# Altium integrated library Philips Microcontroller 16-Bit.IntLib: 30 symbols (part 1 of 2)
Pins are listed as number, name and electrical type; pins without a type are passive.

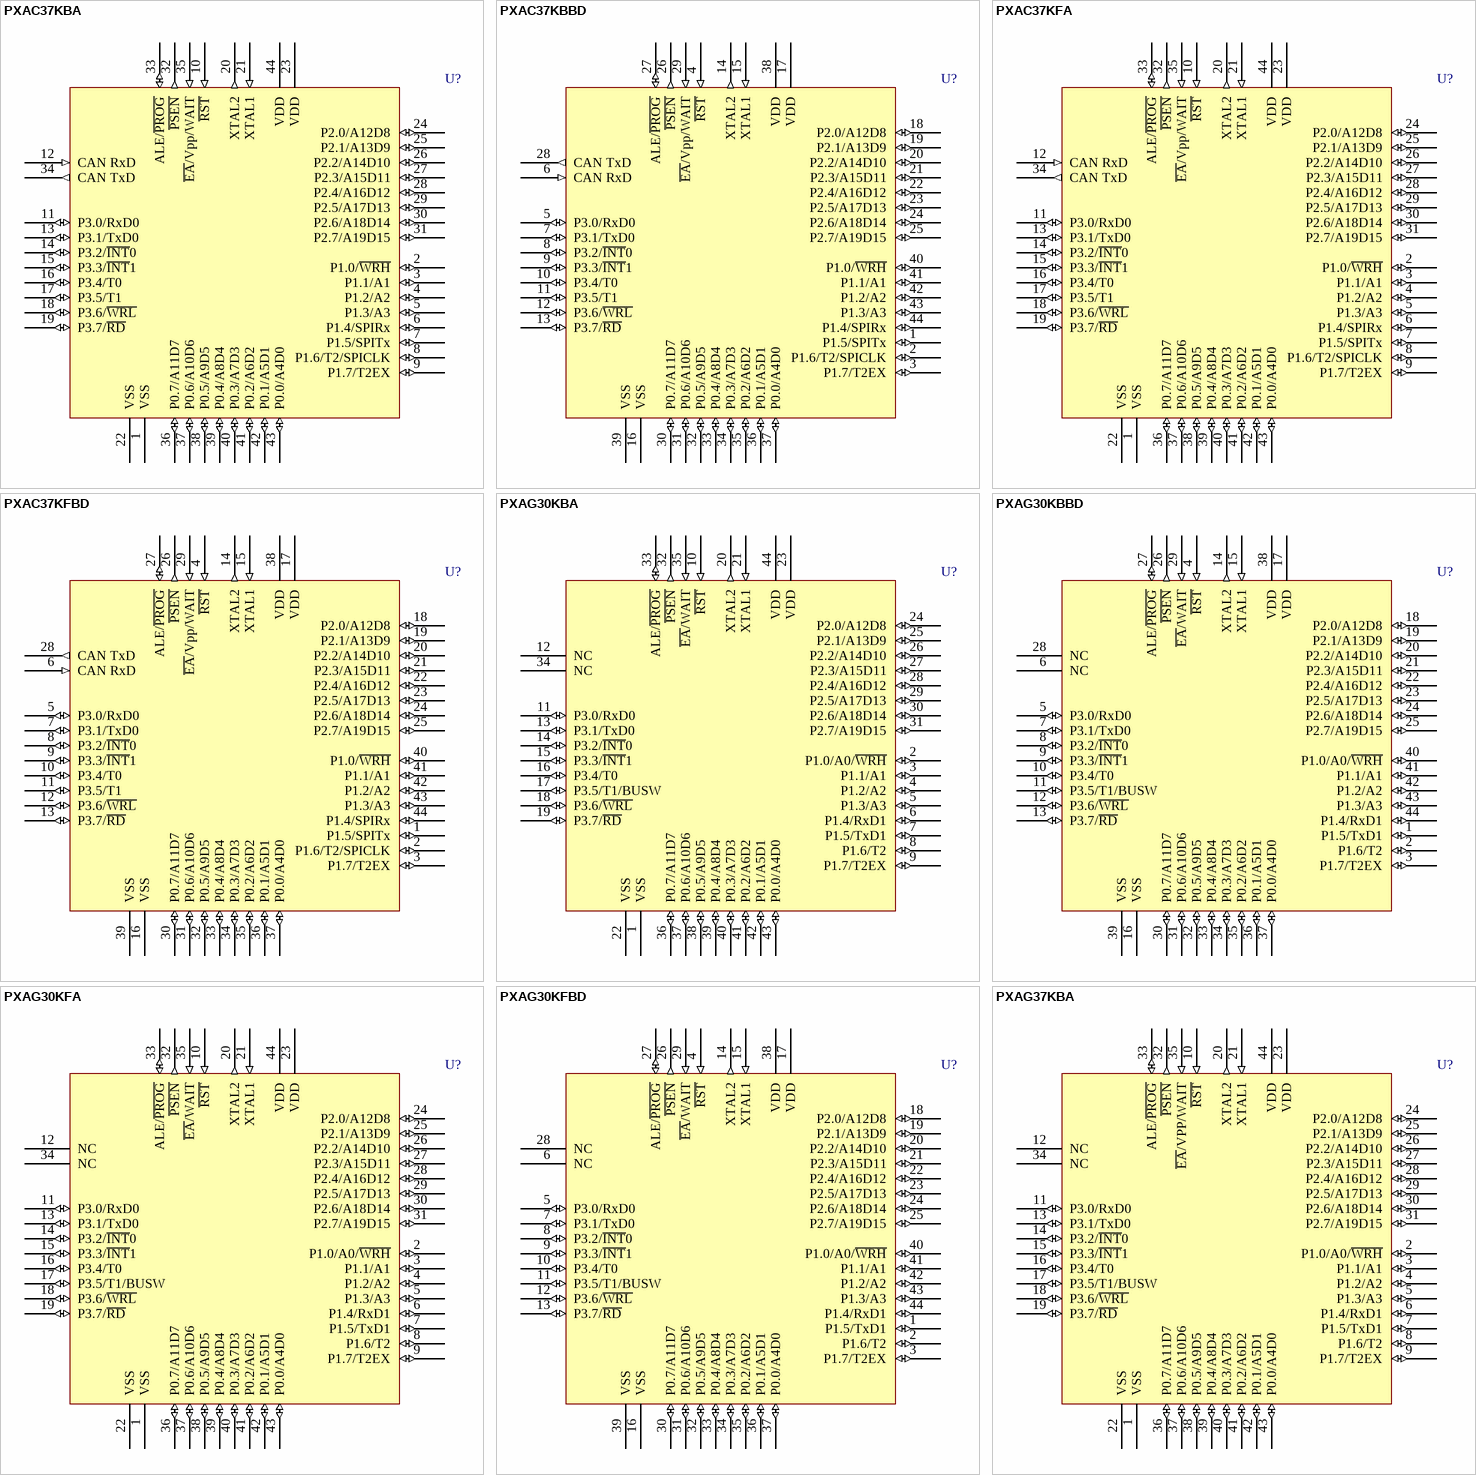
[diagram p0: symbols PXAC37KBA to PXAG37KBA]

## PXAC37KBA
designator U?
XA 16-Bit Microcontroller Family, 32 K/1024 OTP CAN Transport Layer Controller, 1 UART, 1 SPI Port, CAN 2.0B, 32 CAN ID Filters; Published: 21-May-2003; LatestRevisionDate: 13-Apr-2006; LatestRevisionNote: IPC-7351 Footprint Added.; DatasheetVersion: 25-Jan-2000; PackageVersion: Jan-2000; PackageReference: SOT187-2; Publisher: Altium Limited; PackageDescription: 44-Pin Leaded Chip Carrier 1.27 mm Pitch; Code_JEDEC: MO-047AC; Code_IPC: PLCC-44; ComponentLink1Description: Manufacturer Link; ComponentLink1URL: http://www-us2.semiconductors.philips.com/; ComponentLink2Description: Datasheet; ComponentLink2URL: http://www.semiconductors.philips.com/acrobat/datasheets/XA-C3_5.pdf
footprint SOT187-2_N (Leaded Chip Carrier, 44-Leads, Body 16.6x16.6mm, Pitch 1.27mm, IPC Medium Density)
footprint SOT187-2_L (Leaded Chip Carrier, 44-Leads, Body 16.6x16.6mm, Pitch 1.27mm, IPC High Density)
footprint SOT187-2_M (Leaded Chip Carrier, 44-Leads, Body 16.6x16.6mm, Pitch 1.27mm, IPC Low Density)
pins: 1 VSS (power), 2 P1.0/~{WRH} (io), 3 P1.1/A1 (io), 4 P1.2/A2 (io), 5 P1.3/A3 (io), 6 P1.4/SPIRx (io), 7 P1.5/SPITx (io), 8 P1.6/T2/SPICLK (io), 9 P1.7/T2EX (io), 10 ~{RST} (in), 11 P3.0/RxD0 (io), 12 CAN RxD (in), 13 P3.1/TxD0 (io), 14 P3.2/~{INT}0 (io), 15 P3.3/~{INT}1 (io), 16 P3.4/T0 (io), 17 P3.5/T1 (io), 18 P3.6/~{WRL} (io), 19 P3.7/~{RD} (io), 20 XTAL2 (out), 21 XTAL1 (in), 22 VSS (power), 23 VDD (power), 24 P2.0/A12D8 (io), 25 P2.1/A13D9 (io), 26 P2.2/A14D10 (io), 27 P2.3/A15D11 (io), 28 P2.4/A16D12 (io), 29 P2.5/A17D13 (io), 30 P2.6/A18D14 (io), 31 P2.7/A19D15 (io), 32 ~{PSEN} (out), 33 ALE/~{PROG} (io), 34 CAN TxD (out), 35 ~{EA}/Vpp/WAIT (in), 36 P0.7/A11D7 (io), 37 P0.6/A10D6 (io), 38 P0.5/A9D5 (io), 39 P0.4/A8D4 (io), 40 P0.3/A7D3 (io), 41 P0.2/A6D2 (io), 42 P0.1/A5D1 (io), 43 P0.0/A4D0 (io), 44 VDD (power)

## PXAC37KBBD
designator U?
XA 16-Bit Microcontroller Family, 32 K/1024 OTP CAN Transport Layer Controller, 1 UART, 1 SPI Port, CAN 2.0B, 32 CAN ID Filters; Published: 21-May-2003; LatestRevisionDate: 13-Apr-2006; LatestRevisionNote: IPC-7351 Footprint Added.; DatasheetVersion: 25-Jan-2000; PackageVersion: Jan-2002; PackageReference: SOT389-1; Publisher: Altium Limited; PackageDescription: 44-Pin Thin Quad Flat Pack 0.8 mm Pitch; Code_JEDEC: MO-026; ComponentLink1Description: Manufacturer Link; ComponentLink1URL: http://www-us2.semiconductors.philips.com/; ComponentLink2Description: Datasheet; ComponentLink2URL: http://www.semiconductors.philips.com/acrobat/datasheets/XA-C3_5.pdf
footprint SOT389-1_N (Thin QFP, 44-Leads, Body 10x10mm, Pitch 0.8mm, IPC Medium Density)
footprint SOT389-1_L (Thin QFP, 44-Leads, Body 10x10mm, Pitch 0.8mm, IPC High Density)
footprint SOT389-1_M (Thin QFP, 44-Leads, Body 10x10mm, Pitch 0.8mm, IPC Low Density)
pins: 1 P1.5/SPITx (io), 2 P1.6/T2/SPICLK (io), 3 P1.7/T2EX (io), 4 ~{RST} (in), 5 P3.0/RxD0 (io), 6 CAN RxD (in), 7 P3.1/TxD0 (io), 8 P3.2/~{INT}0 (io), 9 P3.3/~{INT}1 (io), 10 P3.4/T0 (io), 11 P3.5/T1 (io), 12 P3.6/~{WRL} (io), 13 P3.7/~{RD} (io), 14 XTAL2 (out), 15 XTAL1 (in), 16 VSS (power), 17 VDD (power), 18 P2.0/A12D8 (io), 19 P2.1/A13D9 (io), 20 P2.2/A14D10 (io), 21 P2.3/A15D11 (io), 22 P2.4/A16D12 (io), 23 P2.5/A17D13 (io), 24 P2.6/A18D14 (io), 25 P2.7/A19D15 (io), 26 ~{PSEN} (out), 27 ALE/~{PROG} (io), 28 CAN TxD (out), 29 ~{EA}/Vpp/WAIT (in), 30 P0.7/A11D7 (io), 31 P0.6/A10D6 (io), 32 P0.5/A9D5 (io), 33 P0.4/A8D4 (io), 34 P0.3/A7D3 (io), 35 P0.2/A6D2 (io), 36 P0.1/A5D1 (io), 37 P0.0/A4D0 (io), 38 VDD (power), 39 VSS (power), 40 P1.0/~{WRH} (io), 41 P1.1/A1 (io), 42 P1.2/A2 (io), 43 P1.3/A3 (io), 44 P1.4/SPIRx (io)

## PXAC37KFA
designator U?
XA 16-Bit Microcontroller Family, 32 K/1024 OTP CAN Transport Layer Controller, 1 UART, 1 SPI Port, CAN 2.0B, 32 CAN ID Filters; Published: 21-May-2003; LatestRevisionDate: 13-Apr-2006; LatestRevisionNote: IPC-7351 Footprint Added.; DatasheetVersion: 25-Jan-2000; PackageVersion: Jan-2000; PackageReference: SOT187-2; Publisher: Altium Limited; PackageDescription: 44-Pin Leaded Chip Carrier 1.27 mm Pitch; Code_JEDEC: MO-047AC; Code_IPC: PLCC-44; ComponentLink1Description: Manufacturer Link; ComponentLink1URL: http://www-us2.semiconductors.philips.com/; ComponentLink2Description: Datasheet; ComponentLink2URL: http://www.semiconductors.philips.com/acrobat/datasheets/XA-C3_5.pdf
footprint SOT187-2_N (Leaded Chip Carrier, 44-Leads, Body 16.6x16.6mm, Pitch 1.27mm, IPC Medium Density)
footprint SOT187-2_L (Leaded Chip Carrier, 44-Leads, Body 16.6x16.6mm, Pitch 1.27mm, IPC High Density)
footprint SOT187-2_M (Leaded Chip Carrier, 44-Leads, Body 16.6x16.6mm, Pitch 1.27mm, IPC Low Density)
pins: 1 VSS (power), 2 P1.0/~{WRH} (io), 3 P1.1/A1 (io), 4 P1.2/A2 (io), 5 P1.3/A3 (io), 6 P1.4/SPIRx (io), 7 P1.5/SPITx (io), 8 P1.6/T2/SPICLK (io), 9 P1.7/T2EX (io), 10 ~{RST} (in), 11 P3.0/RxD0 (io), 12 CAN RxD (in), 13 P3.1/TxD0 (io), 14 P3.2/~{INT}0 (io), 15 P3.3/~{INT}1 (io), 16 P3.4/T0 (io), 17 P3.5/T1 (io), 18 P3.6/~{WRL} (io), 19 P3.7/~{RD} (io), 20 XTAL2 (out), 21 XTAL1 (in), 22 VSS (power), 23 VDD (power), 24 P2.0/A12D8 (io), 25 P2.1/A13D9 (io), 26 P2.2/A14D10 (io), 27 P2.3/A15D11 (io), 28 P2.4/A16D12 (io), 29 P2.5/A17D13 (io), 30 P2.6/A18D14 (io), 31 P2.7/A19D15 (io), 32 ~{PSEN} (out), 33 ALE/~{PROG} (io), 34 CAN TxD (out), 35 ~{EA}/Vpp/WAIT (in), 36 P0.7/A11D7 (io), 37 P0.6/A10D6 (io), 38 P0.5/A9D5 (io), 39 P0.4/A8D4 (io), 40 P0.3/A7D3 (io), 41 P0.2/A6D2 (io), 42 P0.1/A5D1 (io), 43 P0.0/A4D0 (io), 44 VDD (power)

## PXAC37KFBD
designator U?
XA 16-Bit Microcontroller Family, 32 K/1024 OTP CAN Transport Layer Controller, 1 UART, 1 SPI Port, CAN 2.0B, 32 CAN ID Filters; Published: 21-May-2003; LatestRevisionDate: 13-Apr-2006; LatestRevisionNote: IPC-7351 Footprint Added.; DatasheetVersion: 25-Jan-2000; PackageVersion: Jan-2002; PackageReference: SOT389-1; Publisher: Altium Limited; PackageDescription: 44-Pin Thin Quad Flat Pack 0.8 mm Pitch; Code_JEDEC: MO-026; ComponentLink1Description: Manufacturer Link; ComponentLink1URL: http://www-us2.semiconductors.philips.com/; ComponentLink2Description: Datasheet; ComponentLink2URL: http://www.semiconductors.philips.com/acrobat/datasheets/XA-C3_5.pdf
footprint SOT389-1_N (Thin QFP, 44-Leads, Body 10x10mm, Pitch 0.8mm, IPC Medium Density)
footprint SOT389-1_L (Thin QFP, 44-Leads, Body 10x10mm, Pitch 0.8mm, IPC High Density)
footprint SOT389-1_M (Thin QFP, 44-Leads, Body 10x10mm, Pitch 0.8mm, IPC Low Density)
pins: 1 P1.5/SPITx (io), 2 P1.6/T2/SPICLK (io), 3 P1.7/T2EX (io), 4 ~{RST} (in), 5 P3.0/RxD0 (io), 6 CAN RxD (in), 7 P3.1/TxD0 (io), 8 P3.2/~{INT}0 (io), 9 P3.3/~{INT}1 (io), 10 P3.4/T0 (io), 11 P3.5/T1 (io), 12 P3.6/~{WRL} (io), 13 P3.7/~{RD} (io), 14 XTAL2 (out), 15 XTAL1 (in), 16 VSS (power), 17 VDD (power), 18 P2.0/A12D8 (io), 19 P2.1/A13D9 (io), 20 P2.2/A14D10 (io), 21 P2.3/A15D11 (io), 22 P2.4/A16D12 (io), 23 P2.5/A17D13 (io), 24 P2.6/A18D14 (io), 25 P2.7/A19D15 (io), 26 ~{PSEN} (out), 27 ALE/~{PROG} (io), 28 CAN TxD (out), 29 ~{EA}/Vpp/WAIT (in), 30 P0.7/A11D7 (io), 31 P0.6/A10D6 (io), 32 P0.5/A9D5 (io), 33 P0.4/A8D4 (io), 34 P0.3/A7D3 (io), 35 P0.2/A6D2 (io), 36 P0.1/A5D1 (io), 37 P0.0/A4D0 (io), 38 VDD (power), 39 VSS (power), 40 P1.0/~{WRH} (io), 41 P1.1/A1 (io), 42 P1.2/A2 (io), 43 P1.3/A3 (io), 44 P1.4/SPIRx (io)

## PXAG30KBA
designator U?
XA 16-Bit Microcontroller Family, 512 B RAM, Watchdog, 2 UARTs; Published: 21-May-2003; LatestRevisionDate: 13-Apr-2006; LatestRevisionNote: IPC-7351 Footprint Added.; DatasheetVersion: 25-Mar-2002; PackageVersion: Jan-2000; PackageReference: SOT187-2; Publisher: Altium Limited; PackageDescription: 44-Pin Leaded Chip Carrier 1.27 mm Pitch; Code_JEDEC: MO-047AC; Code_IPC: PLCC-44; ComponentLink1Description: Manufacturer Link; ComponentLink1URL: http://www-us2.semiconductors.philips.com/; ComponentLink2Description: Datasheet; ComponentLink2URL: http://www.semiconductors.philips.com/acrobat/datasheets/XA-G30_7.pdf
footprint SOT187-2_N (Leaded Chip Carrier, 44-Leads, Body 16.6x16.6mm, Pitch 1.27mm, IPC Medium Density)
footprint SOT187-2_L (Leaded Chip Carrier, 44-Leads, Body 16.6x16.6mm, Pitch 1.27mm, IPC High Density)
footprint SOT187-2_M (Leaded Chip Carrier, 44-Leads, Body 16.6x16.6mm, Pitch 1.27mm, IPC Low Density)
pins: 1 VSS (power), 2 P1.0/A0/~{WRH} (io), 3 P1.1/A1 (io), 4 P1.2/A2 (io), 5 P1.3/A3 (io), 6 P1.4/RxD1 (io), 7 P1.5/TxD1 (io), 8 P1.6/T2 (io), 9 P1.7/T2EX (io), 10 ~{RST} (in), 11 P3.0/RxD0 (io), 12 NC, 13 P3.1/TxD0 (io), 14 P3.2/~{INT}0 (io), 15 P3.3/~{INT}1 (io), 16 P3.4/T0 (io), 17 P3.5/T1/BUSW (io), 18 P3.6/~{WRL} (io), 19 P3.7/~{RD} (io), 20 XTAL2 (out), 21 XTAL1 (in), 22 VSS (power), 23 VDD (power), 24 P2.0/A12D8 (io), 25 P2.1/A13D9 (io), 26 P2.2/A14D10 (io), 27 P2.3/A15D11 (io), 28 P2.4/A16D12 (io), 29 P2.5/A17D13 (io), 30 P2.6/A18D14 (io), 31 P2.7/A19D15 (io), 32 ~{PSEN} (out), 33 ALE/~{PROG} (io), 34 NC, 35 ~{EA}/WAIT (in), 36 P0.7/A11D7 (io), 37 P0.6/A10D6 (io), 38 P0.5/A9D5 (io), 39 P0.4/A8D4 (io), 40 P0.3/A7D3 (io), 41 P0.2/A6D2 (io), 42 P0.1/A5D1 (io), 43 P0.0/A4D0 (io), 44 VDD (power)

## PXAG30KBBD
designator U?
XA 16-Bit Microcontroller Family, 512 B RAM, Watchdog, 2 UARTs; Published: 21-May-2003; LatestRevisionDate: 13-Apr-2006; LatestRevisionNote: IPC-7351 Footprint Added.; DatasheetVersion: 25-Mar-2002; PackageVersion: Jan-2002; PackageReference: SOT389-1; Publisher: Altium Limited; PackageDescription: 44-Pin Thin Quad Flat Pack 0.8 mm Pitch; Code_JEDEC: MO-026; ComponentLink1Description: Manufacturer Link; ComponentLink1URL: http://www-us2.semiconductors.philips.com/; ComponentLink2Description: Datasheet; ComponentLink2URL: http://www.semiconductors.philips.com/acrobat/datasheets/XA-G30_7.pdf; ComponentLink3Description: Discontinuation Notice; ComponentLink3URL: http://www.semiconductors.philips.com/pip/old/PXAG30.html
footprint SOT389-1_N (Thin QFP, 44-Leads, Body 10x10mm, Pitch 0.8mm, IPC Medium Density)
footprint SOT389-1_L (Thin QFP, 44-Leads, Body 10x10mm, Pitch 0.8mm, IPC High Density)
footprint SOT389-1_M (Thin QFP, 44-Leads, Body 10x10mm, Pitch 0.8mm, IPC Low Density)
pins: 1 P1.5/TxD1 (io), 2 P1.6/T2 (io), 3 P1.7/T2EX (io), 4 ~{RST} (in), 5 P3.0/RxD0 (io), 6 NC, 7 P3.1/TxD0 (io), 8 P3.2/~{INT}0 (io), 9 P3.3/~{INT}1 (io), 10 P3.4/T0 (io), 11 P3.5/T1/BUSW (io), 12 P3.6/~{WRL} (io), 13 P3.7/~{RD} (io), 14 XTAL2 (out), 15 XTAL1 (in), 16 VSS (power), 17 VDD (power), 18 P2.0/A12D8 (io), 19 P2.1/A13D9 (io), 20 P2.2/A14D10 (io), 21 P2.3/A15D11 (io), 22 P2.4/A16D12 (io), 23 P2.5/A17D13 (io), 24 P2.6/A18D14 (io), 25 P2.7/A19D15 (io), 26 ~{PSEN} (out), 27 ALE/~{PROG} (io), 28 NC, 29 ~{EA}/WAIT (in), 30 P0.7/A11D7 (io), 31 P0.6/A10D6 (io), 32 P0.5/A9D5 (io), 33 P0.4/A8D4 (io), 34 P0.3/A7D3 (io), 35 P0.2/A6D2 (io), 36 P0.1/A5D1 (io), 37 P0.0/A4D0 (io), 38 VDD (power), 39 VSS (power), 40 P1.0/A0/~{WRH} (io), 41 P1.1/A1 (io), 42 P1.2/A2 (io), 43 P1.3/A3 (io), 44 P1.4/RxD1 (io)

## PXAG30KFA
designator U?
XA 16-Bit Microcontroller Family, 512 B RAM, Watchdog, 2 UARTs; Published: 21-May-2003; LatestRevisionDate: 13-Apr-2006; LatestRevisionNote: IPC-7351 Footprint Added.; DatasheetVersion: 25-Mar-2002; PackageVersion: Jan-2000; PackageReference: SOT187-2; Publisher: Altium Limited; PackageDescription: 44-Pin Leaded Chip Carrier 1.27 mm Pitch; Code_JEDEC: MO-047AC; Code_IPC: PLCC-44; ComponentLink1Description: Manufacturer Link; ComponentLink1URL: http://www-us2.semiconductors.philips.com/; ComponentLink2Description: Datasheet; ComponentLink2URL: http://www.semiconductors.philips.com/acrobat/datasheets/XA-G30_7.pdf
footprint SOT187-2_N (Leaded Chip Carrier, 44-Leads, Body 16.6x16.6mm, Pitch 1.27mm, IPC Medium Density)
footprint SOT187-2_L (Leaded Chip Carrier, 44-Leads, Body 16.6x16.6mm, Pitch 1.27mm, IPC High Density)
footprint SOT187-2_M (Leaded Chip Carrier, 44-Leads, Body 16.6x16.6mm, Pitch 1.27mm, IPC Low Density)
pins: 1 VSS (power), 2 P1.0/A0/~{WRH} (io), 3 P1.1/A1 (io), 4 P1.2/A2 (io), 5 P1.3/A3 (io), 6 P1.4/RxD1 (io), 7 P1.5/TxD1 (io), 8 P1.6/T2 (io), 9 P1.7/T2EX (io), 10 ~{RST} (in), 11 P3.0/RxD0 (io), 12 NC, 13 P3.1/TxD0 (io), 14 P3.2/~{INT}0 (io), 15 P3.3/~{INT}1 (io), 16 P3.4/T0 (io), 17 P3.5/T1/BUSW (io), 18 P3.6/~{WRL} (io), 19 P3.7/~{RD} (io), 20 XTAL2 (out), 21 XTAL1 (in), 22 VSS (power), 23 VDD (power), 24 P2.0/A12D8 (io), 25 P2.1/A13D9 (io), 26 P2.2/A14D10 (io), 27 P2.3/A15D11 (io), 28 P2.4/A16D12 (io), 29 P2.5/A17D13 (io), 30 P2.6/A18D14 (io), 31 P2.7/A19D15 (io), 32 ~{PSEN} (out), 33 ALE/~{PROG} (io), 34 NC, 35 ~{EA}/WAIT (in), 36 P0.7/A11D7 (io), 37 P0.6/A10D6 (io), 38 P0.5/A9D5 (io), 39 P0.4/A8D4 (io), 40 P0.3/A7D3 (io), 41 P0.2/A6D2 (io), 42 P0.1/A5D1 (io), 43 P0.0/A4D0 (io), 44 VDD (power)

## PXAG30KFBD
designator U?
XA 16-Bit Microcontroller Family, 512 B RAM, Watchdog, 2 UARTs; Published: 21-May-2003; LatestRevisionDate: 13-Apr-2006; LatestRevisionNote: IPC-7351 Footprint Added.; DatasheetVersion: 25-Mar-2002; PackageVersion: Jan-2002; PackageReference: SOT389-1; Publisher: Altium Limited; PackageDescription: 44-Pin Thin Quad Flat Pack 0.8 mm Pitch; Code_JEDEC: MO-026; ComponentLink1Description: Manufacturer Link; ComponentLink1URL: http://www-us2.semiconductors.philips.com/; ComponentLink2Description: Datasheet; ComponentLink2URL: http://www.semiconductors.philips.com/acrobat/datasheets/XA-G30_7.pdf; ComponentLink3Description: Discontinuation Notice; ComponentLink3URL: http://www.semiconductors.philips.com/pip/old/PXAG30.html
footprint SOT389-1_N (Thin QFP, 44-Leads, Body 10x10mm, Pitch 0.8mm, IPC Medium Density)
footprint SOT389-1_L (Thin QFP, 44-Leads, Body 10x10mm, Pitch 0.8mm, IPC High Density)
footprint SOT389-1_M (Thin QFP, 44-Leads, Body 10x10mm, Pitch 0.8mm, IPC Low Density)
pins: 1 P1.5/TxD1 (io), 2 P1.6/T2 (io), 3 P1.7/T2EX (io), 4 ~{RST} (in), 5 P3.0/RxD0 (io), 6 NC, 7 P3.1/TxD0 (io), 8 P3.2/~{INT}0 (io), 9 P3.3/~{INT}1 (io), 10 P3.4/T0 (io), 11 P3.5/T1/BUSW (io), 12 P3.6/~{WRL} (io), 13 P3.7/~{RD} (io), 14 XTAL2 (out), 15 XTAL1 (in), 16 VSS (power), 17 VDD (power), 18 P2.0/A12D8 (io), 19 P2.1/A13D9 (io), 20 P2.2/A14D10 (io), 21 P2.3/A15D11 (io), 22 P2.4/A16D12 (io), 23 P2.5/A17D13 (io), 24 P2.6/A18D14 (io), 25 P2.7/A19D15 (io), 26 ~{PSEN} (out), 27 ALE/~{PROG} (io), 28 NC, 29 ~{EA}/WAIT (in), 30 P0.7/A11D7 (io), 31 P0.6/A10D6 (io), 32 P0.5/A9D5 (io), 33 P0.4/A8D4 (io), 34 P0.3/A7D3 (io), 35 P0.2/A6D2 (io), 36 P0.1/A5D1 (io), 37 P0.0/A4D0 (io), 38 VDD (power), 39 VSS (power), 40 P1.0/A0/~{WRH} (io), 41 P1.1/A1 (io), 42 P1.2/A2 (io), 43 P1.3/A3 (io), 44 P1.4/RxD1 (io)

## PXAG37KBA
designator U?
XA 16-Bit Microcontroller Family, 32 K OTP, 512 B RAM, Watchdog, 2 UARTs; Published: 21-May-2003; LatestRevisionDate: 13-Apr-2006; LatestRevisionNote: IPC-7351 Footprint Added.; DatasheetVersion: 25-Mar-2002; PackageVersion: Jan-2000; PackageReference: SOT187-2; Publisher: Altium Limited; PackageDescription: 44-Pin Leaded Chip Carrier 1.27 mm Pitch; Code_JEDEC: MO-047AC; Code_IPC: PLCC-44; ComponentLink1Description: Manufacturer Link; ComponentLink1URL: http://www-us2.semiconductors.philips.com/; ComponentLink2Description: Datasheet; ComponentLink2URL: http://www.semiconductors.philips.com/acrobat/datasheets/XA-G37_7.pdf; ComponentLink3Description: Discontinuation Notice; ComponentLink3URL: http://www.semiconductors.philips.com/pip/old/PXAG37.html
footprint SOT187-2_N (Leaded Chip Carrier, 44-Leads, Body 16.6x16.6mm, Pitch 1.27mm, IPC Medium Density)
footprint SOT187-2_L (Leaded Chip Carrier, 44-Leads, Body 16.6x16.6mm, Pitch 1.27mm, IPC High Density)
footprint SOT187-2_M (Leaded Chip Carrier, 44-Leads, Body 16.6x16.6mm, Pitch 1.27mm, IPC Low Density)
pins: 1 VSS (power), 2 P1.0/A0/~{WRH} (io), 3 P1.1/A1 (io), 4 P1.2/A2 (io), 5 P1.3/A3 (io), 6 P1.4/RxD1 (io), 7 P1.5/TxD1 (io), 8 P1.6/T2 (io), 9 P1.7/T2EX (io), 10 ~{RST} (in), 11 P3.0/RxD0 (io), 12 NC, 13 P3.1/TxD0 (io), 14 P3.2/~{INT}0 (io), 15 P3.3/~{INT}1 (io), 16 P3.4/T0 (io), 17 P3.5/T1/BUSW (io), 18 P3.6/~{WRL} (io), 19 P3.7/~{RD} (io), 20 XTAL2 (out), 21 XTAL1 (in), 22 VSS (power), 23 VDD (power), 24 P2.0/A12D8 (io), 25 P2.1/A13D9 (io), 26 P2.2/A14D10 (io), 27 P2.3/A15D11 (io), 28 P2.4/A16D12 (io), 29 P2.5/A17D13 (io), 30 P2.6/A18D14 (io), 31 P2.7/A19D15 (io), 32 ~{PSEN} (out), 33 ALE/~{PROG} (io), 34 NC, 35 ~{EA}/VPP/WAIT (in), 36 P0.7/A11D7 (io), 37 P0.6/A10D6 (io), 38 P0.5/A9D5 (io), 39 P0.4/A8D4 (io), 40 P0.3/A7D3 (io), 41 P0.2/A6D2 (io), 42 P0.1/A5D1 (io), 43 P0.0/A4D0 (io), 44 VDD (power)

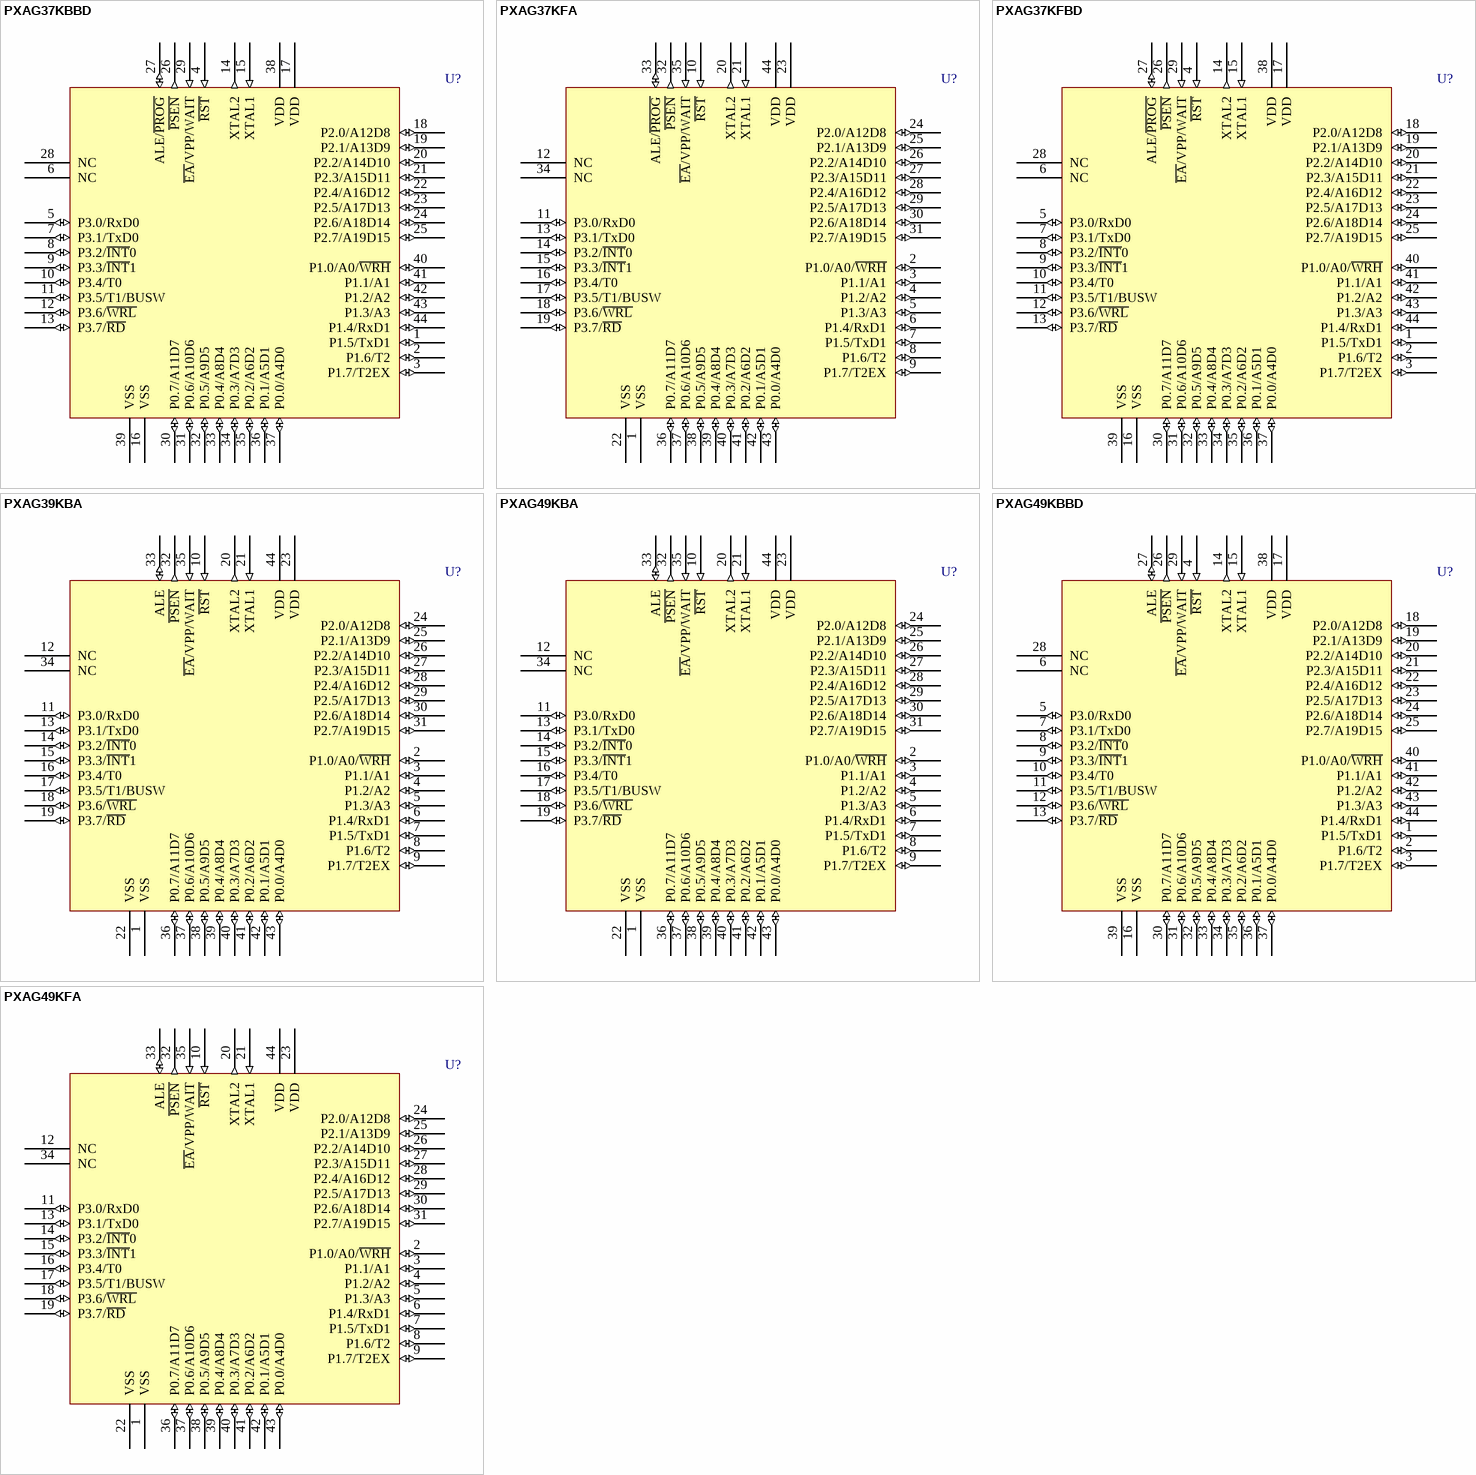
[diagram p1: symbols PXAG37KBBD to PXAG49KFA]

## PXAG37KBBD
designator U?
XA 16-Bit Microcontroller Family, 32 K OTP, 512 B RAM, Watchdog, 2 UARTs; Published: 21-May-2003; LatestRevisionDate: 13-Apr-2006; LatestRevisionNote: IPC-7351 Footprint Added.; DatasheetVersion: 25-Mar-2002; PackageVersion: Jan-2002; PackageReference: SOT389-1; Publisher: Altium Limited; PackageDescription: 44-Pin Thin Quad Flat Pack 0.8 mm Pitch; Code_JEDEC: MO-026; ComponentLink1Description: Manufacturer Link; ComponentLink1URL: http://www-us2.semiconductors.philips.com/; ComponentLink2Description: Datasheet; ComponentLink2URL: http://www.semiconductors.philips.com/acrobat/datasheets/XA-G37_7.pdf; ComponentLink3Description: Discontinuation Notice; ComponentLink3URL: http://www.semiconductors.philips.com/pip/old/PXAG37.html
footprint SOT389-1_N (Thin QFP, 44-Leads, Body 10x10mm, Pitch 0.8mm, IPC Medium Density)
footprint SOT389-1_L (Thin QFP, 44-Leads, Body 10x10mm, Pitch 0.8mm, IPC High Density)
footprint SOT389-1_M (Thin QFP, 44-Leads, Body 10x10mm, Pitch 0.8mm, IPC Low Density)
pins: 1 P1.5/TxD1 (io), 2 P1.6/T2 (io), 3 P1.7/T2EX (io), 4 ~{RST} (in), 5 P3.0/RxD0 (io), 6 NC, 7 P3.1/TxD0 (io), 8 P3.2/~{INT}0 (io), 9 P3.3/~{INT}1 (io), 10 P3.4/T0 (io), 11 P3.5/T1/BUSW (io), 12 P3.6/~{WRL} (io), 13 P3.7/~{RD} (io), 14 XTAL2 (out), 15 XTAL1 (in), 16 VSS (power), 17 VDD (power), 18 P2.0/A12D8 (io), 19 P2.1/A13D9 (io), 20 P2.2/A14D10 (io), 21 P2.3/A15D11 (io), 22 P2.4/A16D12 (io), 23 P2.5/A17D13 (io), 24 P2.6/A18D14 (io), 25 P2.7/A19D15 (io), 26 ~{PSEN} (out), 27 ALE/~{PROG} (io), 28 NC, 29 ~{EA}/VPP/WAIT (in), 30 P0.7/A11D7 (io), 31 P0.6/A10D6 (io), 32 P0.5/A9D5 (io), 33 P0.4/A8D4 (io), 34 P0.3/A7D3 (io), 35 P0.2/A6D2 (io), 36 P0.1/A5D1 (io), 37 P0.0/A4D0 (io), 38 VDD (power), 39 VSS (power), 40 P1.0/A0/~{WRH} (io), 41 P1.1/A1 (io), 42 P1.2/A2 (io), 43 P1.3/A3 (io), 44 P1.4/RxD1 (io)

## PXAG37KFA
designator U?
XA 16-Bit Microcontroller Family, 32 K OTP, 512 B RAM, Watchdog, 2 UARTs; Published: 21-May-2003; LatestRevisionDate: 13-Apr-2006; LatestRevisionNote: IPC-7351 Footprint Added.; DatasheetVersion: 25-Mar-2002; PackageVersion: Jan-2000; PackageReference: SOT187-2; Publisher: Altium Limited; PackageDescription: 44-Pin Leaded Chip Carrier 1.27 mm Pitch; Code_JEDEC: MO-047AC; Code_IPC: PLCC-44; ComponentLink1Description: Manufacturer Link; ComponentLink1URL: http://www-us2.semiconductors.philips.com/; ComponentLink2Description: Datasheet; ComponentLink2URL: http://www.semiconductors.philips.com/acrobat/datasheets/XA-G37_7.pdf; ComponentLink3Description: Discontinuation Notice; ComponentLink3URL: http://www.semiconductors.philips.com/pip/old/PXAG37.html
footprint SOT187-2_N (Leaded Chip Carrier, 44-Leads, Body 16.6x16.6mm, Pitch 1.27mm, IPC Medium Density)
footprint SOT187-2_L (Leaded Chip Carrier, 44-Leads, Body 16.6x16.6mm, Pitch 1.27mm, IPC High Density)
footprint SOT187-2_M (Leaded Chip Carrier, 44-Leads, Body 16.6x16.6mm, Pitch 1.27mm, IPC Low Density)
pins: 1 VSS (power), 2 P1.0/A0/~{WRH} (io), 3 P1.1/A1 (io), 4 P1.2/A2 (io), 5 P1.3/A3 (io), 6 P1.4/RxD1 (io), 7 P1.5/TxD1 (io), 8 P1.6/T2 (io), 9 P1.7/T2EX (io), 10 ~{RST} (in), 11 P3.0/RxD0 (io), 12 NC, 13 P3.1/TxD0 (io), 14 P3.2/~{INT}0 (io), 15 P3.3/~{INT}1 (io), 16 P3.4/T0 (io), 17 P3.5/T1/BUSW (io), 18 P3.6/~{WRL} (io), 19 P3.7/~{RD} (io), 20 XTAL2 (out), 21 XTAL1 (in), 22 VSS (power), 23 VDD (power), 24 P2.0/A12D8 (io), 25 P2.1/A13D9 (io), 26 P2.2/A14D10 (io), 27 P2.3/A15D11 (io), 28 P2.4/A16D12 (io), 29 P2.5/A17D13 (io), 30 P2.6/A18D14 (io), 31 P2.7/A19D15 (io), 32 ~{PSEN} (out), 33 ALE/~{PROG} (io), 34 NC, 35 ~{EA}/VPP/WAIT (in), 36 P0.7/A11D7 (io), 37 P0.6/A10D6 (io), 38 P0.5/A9D5 (io), 39 P0.4/A8D4 (io), 40 P0.3/A7D3 (io), 41 P0.2/A6D2 (io), 42 P0.1/A5D1 (io), 43 P0.0/A4D0 (io), 44 VDD (power)

## PXAG37KFBD
designator U?
XA 16-Bit Microcontroller Family, 32 K OTP, 512 B RAM, Watchdog, 2 UARTs; Published: 21-May-2003; LatestRevisionDate: 13-Apr-2006; LatestRevisionNote: IPC-7351 Footprint Added.; DatasheetVersion: 25-Mar-2002; PackageVersion: Jan-2002; PackageReference: SOT389-1; Publisher: Altium Limited; PackageDescription: 44-Pin Thin Quad Flat Pack 0.8 mm Pitch; Code_JEDEC: MO-026; ComponentLink1Description: Manufacturer Link; ComponentLink1URL: http://www-us2.semiconductors.philips.com/; ComponentLink2Description: Datasheet; ComponentLink2URL: http://www.semiconductors.philips.com/acrobat/datasheets/XA-G37_7.pdf
footprint SOT389-1_N (Thin QFP, 44-Leads, Body 10x10mm, Pitch 0.8mm, IPC Medium Density)
footprint SOT389-1_L (Thin QFP, 44-Leads, Body 10x10mm, Pitch 0.8mm, IPC High Density)
footprint SOT389-1_M (Thin QFP, 44-Leads, Body 10x10mm, Pitch 0.8mm, IPC Low Density)
pins: 1 P1.5/TxD1 (io), 2 P1.6/T2 (io), 3 P1.7/T2EX (io), 4 ~{RST} (in), 5 P3.0/RxD0 (io), 6 NC, 7 P3.1/TxD0 (io), 8 P3.2/~{INT}0 (io), 9 P3.3/~{INT}1 (io), 10 P3.4/T0 (io), 11 P3.5/T1/BUSW (io), 12 P3.6/~{WRL} (io), 13 P3.7/~{RD} (io), 14 XTAL2 (out), 15 XTAL1 (in), 16 VSS (power), 17 VDD (power), 18 P2.0/A12D8 (io), 19 P2.1/A13D9 (io), 20 P2.2/A14D10 (io), 21 P2.3/A15D11 (io), 22 P2.4/A16D12 (io), 23 P2.5/A17D13 (io), 24 P2.6/A18D14 (io), 25 P2.7/A19D15 (io), 26 ~{PSEN} (out), 27 ALE/~{PROG} (io), 28 NC, 29 ~{EA}/VPP/WAIT (in), 30 P0.7/A11D7 (io), 31 P0.6/A10D6 (io), 32 P0.5/A9D5 (io), 33 P0.4/A8D4 (io), 34 P0.3/A7D3 (io), 35 P0.2/A6D2 (io), 36 P0.1/A5D1 (io), 37 P0.0/A4D0 (io), 38 VDD (power), 39 VSS (power), 40 P1.0/A0/~{WRH} (io), 41 P1.1/A1 (io), 42 P1.2/A2 (io), 43 P1.3/A3 (io), 44 P1.4/RxD1 (io)

## PXAG39KBA
designator U?
XA 16-Bit Microcontroller Family, 32 K Flash/1K RAM, Watchdog, 2 UARTs; Published: 21-May-2003; LatestRevisionDate: 13-Apr-2006; LatestRevisionNote: IPC-7351 Footprint Added.; DatasheetVersion: 13-Mar-2002; PackageVersion: Jan-2000; PackageReference: SOT187-2; Publisher: Altium Limited; PackageDescription: 44-Pin Leaded Chip Carrier 1.27 mm Pitch; Code_JEDEC: MO-047AC; Code_IPC: PLCC-44; ComponentLink1Description: Manufacturer Link; ComponentLink1URL: http://www-us2.semiconductors.philips.com/; ComponentLink2Description: Datasheet; ComponentLink2URL: http://www.semiconductors.philips.com/acrobat/datasheets/XA-G39_1.pdf; ComponentLink3Description: Discontinuation Notice; ComponentLink3URL: http://www.semiconductors.philips.com/pip/old/XA-G39.html
footprint SOT187-2_N (Leaded Chip Carrier, 44-Leads, Body 16.6x16.6mm, Pitch 1.27mm, IPC Medium Density)
footprint SOT187-2_L (Leaded Chip Carrier, 44-Leads, Body 16.6x16.6mm, Pitch 1.27mm, IPC High Density)
footprint SOT187-2_M (Leaded Chip Carrier, 44-Leads, Body 16.6x16.6mm, Pitch 1.27mm, IPC Low Density)
pins: 1 VSS (power), 2 P1.0/A0/~{WRH} (io), 3 P1.1/A1 (io), 4 P1.2/A2 (io), 5 P1.3/A3 (io), 6 P1.4/RxD1 (io), 7 P1.5/TxD1 (io), 8 P1.6/T2 (io), 9 P1.7/T2EX (io), 10 ~{RST} (in), 11 P3.0/RxD0 (io), 12 NC, 13 P3.1/TxD0 (io), 14 P3.2/~{INT}0 (io), 15 P3.3/~{INT}1 (io), 16 P3.4/T0 (io), 17 P3.5/T1/BUSW (io), 18 P3.6/~{WRL} (io), 19 P3.7/~{RD} (io), 20 XTAL2 (out), 21 XTAL1 (in), 22 VSS (power), 23 VDD (power), 24 P2.0/A12D8 (io), 25 P2.1/A13D9 (io), 26 P2.2/A14D10 (io), 27 P2.3/A15D11 (io), 28 P2.4/A16D12 (io), 29 P2.5/A17D13 (io), 30 P2.6/A18D14 (io), 31 P2.7/A19D15 (io), 32 ~{PSEN} (out), 33 ALE (io), 34 NC, 35 ~{EA}/VPP/WAIT (in), 36 P0.7/A11D7 (io), 37 P0.6/A10D6 (io), 38 P0.5/A9D5 (io), 39 P0.4/A8D4 (io), 40 P0.3/A7D3 (io), 41 P0.2/A6D2 (io), 42 P0.1/A5D1 (io), 43 P0.0/A4D0 (io), 44 VDD (power)

## PXAG49KBA
designator U?
XA 16-Bit Microcontroller Family, 64 K Flash/2K RAM, Watchdog, 2 UARTs; Published: 21-May-2003; LatestRevisionDate: 13-Apr-2006; LatestRevisionNote: IPC-7351 Footprint Added.; DatasheetVersion: 27-Jun-2001; PackageVersion: Jan-2000; PackageReference: SOT187-2; Publisher: Altium Limited; PackageDescription: 44-Pin Leaded Chip Carrier 1.27 mm Pitch; Code_JEDEC: MO-047AC; Code_IPC: PLCC-44; ComponentLink1Description: Manufacturer Link; ComponentLink1URL: http://www-us2.semiconductors.philips.com/; ComponentLink2Description: Datasheet; ComponentLink2URL: http://www.semiconductors.philips.com/acrobat/datasheets/XA-G49_5.pdf
footprint SOT187-2_N (Leaded Chip Carrier, 44-Leads, Body 16.6x16.6mm, Pitch 1.27mm, IPC Medium Density)
footprint SOT187-2_L (Leaded Chip Carrier, 44-Leads, Body 16.6x16.6mm, Pitch 1.27mm, IPC High Density)
footprint SOT187-2_M (Leaded Chip Carrier, 44-Leads, Body 16.6x16.6mm, Pitch 1.27mm, IPC Low Density)
pins: 1 VSS (power), 2 P1.0/A0/~{WRH} (io), 3 P1.1/A1 (io), 4 P1.2/A2 (io), 5 P1.3/A3 (io), 6 P1.4/RxD1 (io), 7 P1.5/TxD1 (io), 8 P1.6/T2 (io), 9 P1.7/T2EX (io), 10 ~{RST} (in), 11 P3.0/RxD0 (io), 12 NC, 13 P3.1/TxD0 (io), 14 P3.2/~{INT}0 (io), 15 P3.3/~{INT}1 (io), 16 P3.4/T0 (io), 17 P3.5/T1/BUSW (io), 18 P3.6/~{WRL} (io), 19 P3.7/~{RD} (io), 20 XTAL2 (out), 21 XTAL1 (in), 22 VSS (power), 23 VDD (power), 24 P2.0/A12D8 (io), 25 P2.1/A13D9 (io), 26 P2.2/A14D10 (io), 27 P2.3/A15D11 (io), 28 P2.4/A16D12 (io), 29 P2.5/A17D13 (io), 30 P2.6/A18D14 (io), 31 P2.7/A19D15 (io), 32 ~{PSEN} (out), 33 ALE (io), 34 NC, 35 ~{EA}/VPP/WAIT (in), 36 P0.7/A11D7 (io), 37 P0.6/A10D6 (io), 38 P0.5/A9D5 (io), 39 P0.4/A8D4 (io), 40 P0.3/A7D3 (io), 41 P0.2/A6D2 (io), 42 P0.1/A5D1 (io), 43 P0.0/A4D0 (io), 44 VDD (power)

## PXAG49KBBD
designator U?
XA 16-Bit Microcontroller Family, 64 K Flash/2K RAM, Watchdog, 2 UARTs; Published: 21-May-2003; LatestRevisionDate: 13-Apr-2006; LatestRevisionNote: IPC-7351 Footprint Added.; DatasheetVersion: 27-Jun-2001; PackageVersion: Jan-2002; PackageReference: SOT389-1; Publisher: Altium Limited; PackageDescription: 44-Pin Thin Quad Flat Pack 0.8 mm Pitch; Code_JEDEC: MO-026; ComponentLink1Description: Manufacturer Link; ComponentLink1URL: http://www-us2.semiconductors.philips.com/; ComponentLink2Description: Datasheet; ComponentLink2URL: http://www.semiconductors.philips.com/acrobat/datasheets/XA-G49_5.pdf
footprint SOT389-1_N (Thin QFP, 44-Leads, Body 10x10mm, Pitch 0.8mm, IPC Medium Density)
footprint SOT389-1_L (Thin QFP, 44-Leads, Body 10x10mm, Pitch 0.8mm, IPC High Density)
footprint SOT389-1_M (Thin QFP, 44-Leads, Body 10x10mm, Pitch 0.8mm, IPC Low Density)
pins: 1 P1.5/TxD1 (io), 2 P1.6/T2 (io), 3 P1.7/T2EX (io), 4 ~{RST} (in), 5 P3.0/RxD0 (io), 6 NC, 7 P3.1/TxD0 (io), 8 P3.2/~{INT}0 (io), 9 P3.3/~{INT}1 (io), 10 P3.4/T0 (io), 11 P3.5/T1/BUSW (io), 12 P3.6/~{WRL} (io), 13 P3.7/~{RD} (io), 14 XTAL2 (out), 15 XTAL1 (in), 16 VSS (power), 17 VDD (power), 18 P2.0/A12D8 (io), 19 P2.1/A13D9 (io), 20 P2.2/A14D10 (io), 21 P2.3/A15D11 (io), 22 P2.4/A16D12 (io), 23 P2.5/A17D13 (io), 24 P2.6/A18D14 (io), 25 P2.7/A19D15 (io), 26 ~{PSEN} (out), 27 ALE (io), 28 NC, 29 ~{EA}/VPP/WAIT (in), 30 P0.7/A11D7 (io), 31 P0.6/A10D6 (io), 32 P0.5/A9D5 (io), 33 P0.4/A8D4 (io), 34 P0.3/A7D3 (io), 35 P0.2/A6D2 (io), 36 P0.1/A5D1 (io), 37 P0.0/A4D0 (io), 38 VDD (power), 39 VSS (power), 40 P1.0/A0/~{WRH} (io), 41 P1.1/A1 (io), 42 P1.2/A2 (io), 43 P1.3/A3 (io), 44 P1.4/RxD1 (io)

## PXAG49KFA
designator U?
XA 16-Bit Microcontroller Family, 64 K Flash/2K RAM, Watchdog, 2 UARTs; Published: 21-May-2003; LatestRevisionDate: 13-Apr-2006; LatestRevisionNote: IPC-7351 Footprint Added.; DatasheetVersion: 27-Jun-2001; PackageVersion: Jan-2000; PackageReference: SOT187-2; Publisher: Altium Limited; PackageDescription: 44-Pin Leaded Chip Carrier 1.27 mm Pitch; Code_JEDEC: MO-047AC; Code_IPC: PLCC-44; ComponentLink1Description: Manufacturer Link; ComponentLink1URL: http://www-us2.semiconductors.philips.com/; ComponentLink2Description: Datasheet; ComponentLink2URL: http://www.semiconductors.philips.com/acrobat/datasheets/XA-G49_5.pdf
footprint SOT187-2_N (Leaded Chip Carrier, 44-Leads, Body 16.6x16.6mm, Pitch 1.27mm, IPC Medium Density)
footprint SOT187-2_L (Leaded Chip Carrier, 44-Leads, Body 16.6x16.6mm, Pitch 1.27mm, IPC High Density)
footprint SOT187-2_M (Leaded Chip Carrier, 44-Leads, Body 16.6x16.6mm, Pitch 1.27mm, IPC Low Density)
pins: 1 VSS (power), 2 P1.0/A0/~{WRH} (io), 3 P1.1/A1 (io), 4 P1.2/A2 (io), 5 P1.3/A3 (io), 6 P1.4/RxD1 (io), 7 P1.5/TxD1 (io), 8 P1.6/T2 (io), 9 P1.7/T2EX (io), 10 ~{RST} (in), 11 P3.0/RxD0 (io), 12 NC, 13 P3.1/TxD0 (io), 14 P3.2/~{INT}0 (io), 15 P3.3/~{INT}1 (io), 16 P3.4/T0 (io), 17 P3.5/T1/BUSW (io), 18 P3.6/~{WRL} (io), 19 P3.7/~{RD} (io), 20 XTAL2 (out), 21 XTAL1 (in), 22 VSS (power), 23 VDD (power), 24 P2.0/A12D8 (io), 25 P2.1/A13D9 (io), 26 P2.2/A14D10 (io), 27 P2.3/A15D11 (io), 28 P2.4/A16D12 (io), 29 P2.5/A17D13 (io), 30 P2.6/A18D14 (io), 31 P2.7/A19D15 (io), 32 ~{PSEN} (out), 33 ALE (io), 34 NC, 35 ~{EA}/VPP/WAIT (in), 36 P0.7/A11D7 (io), 37 P0.6/A10D6 (io), 38 P0.5/A9D5 (io), 39 P0.4/A8D4 (io), 40 P0.3/A7D3 (io), 41 P0.2/A6D2 (io), 42 P0.1/A5D1 (io), 43 P0.0/A4D0 (io), 44 VDD (power)

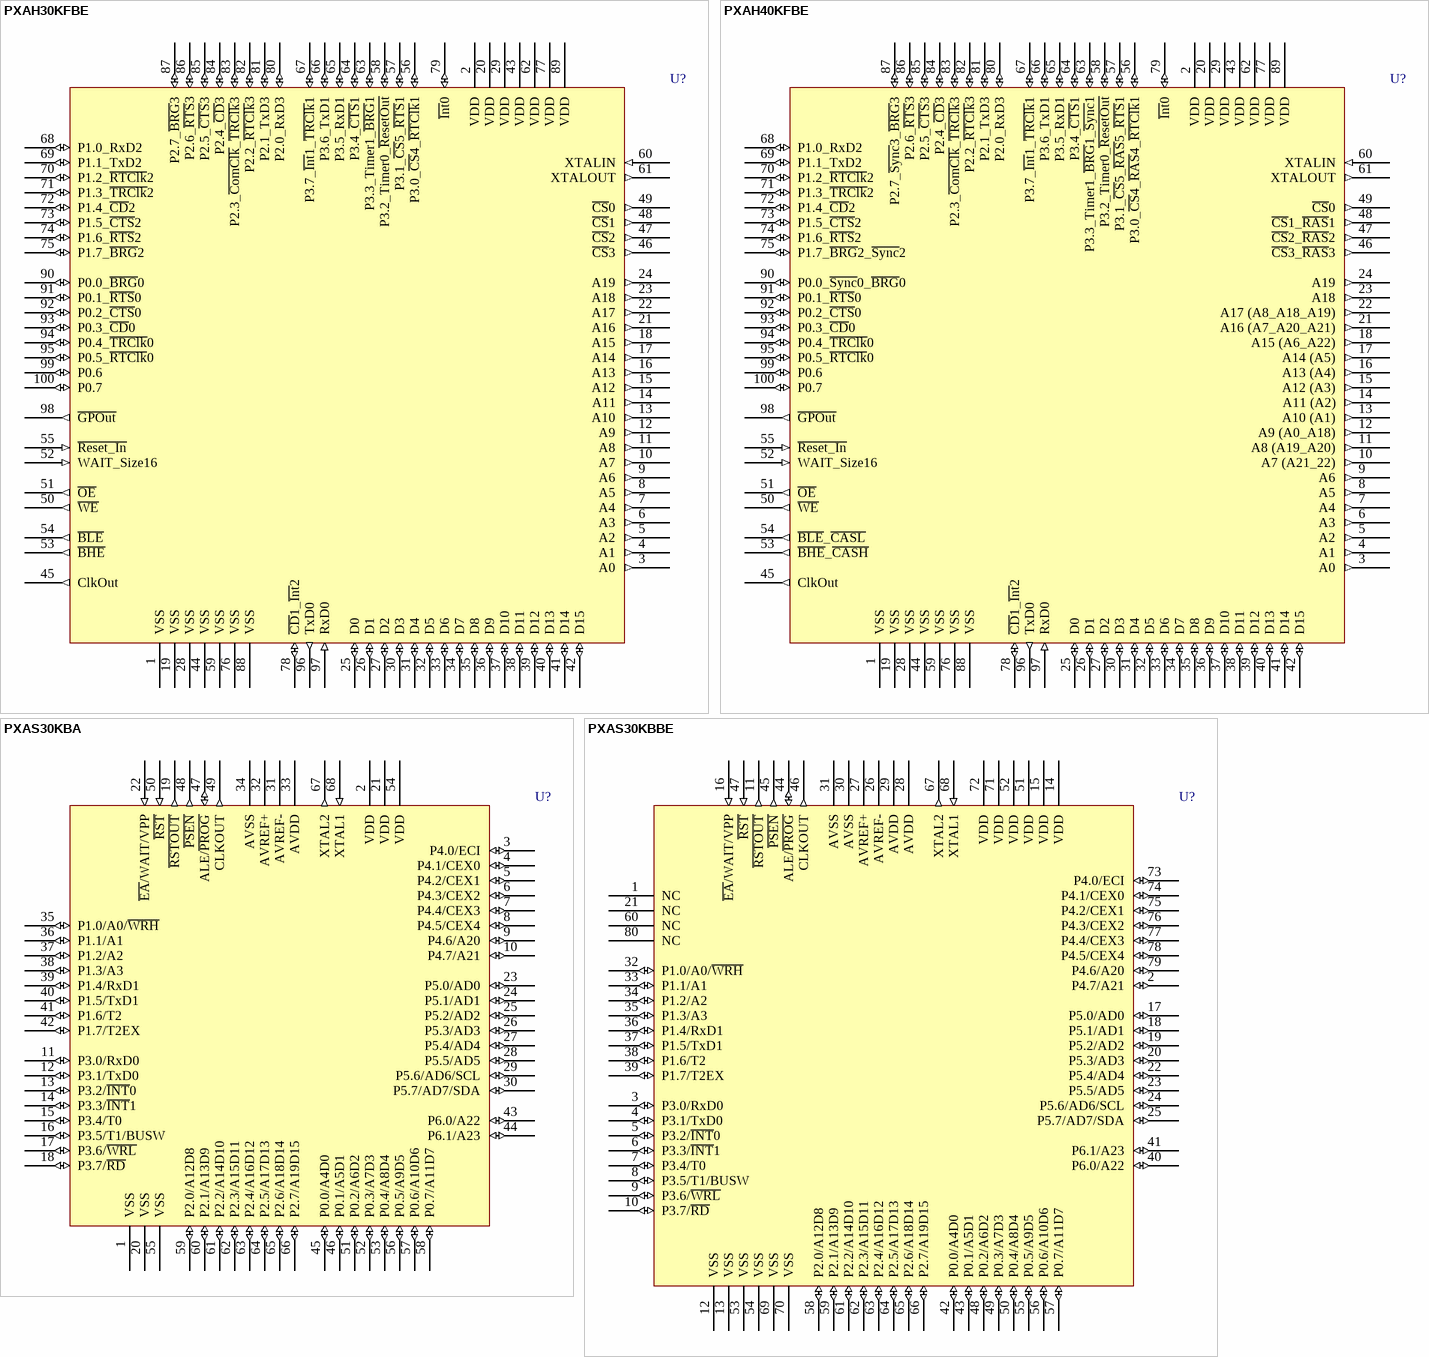
[diagram p2: symbols PXAH30KFBE to PXAS30KBBE]

## PXAH30KFBE
designator U?
CMOS 16-Bit Highly Integrated Microcontroller; Published: 21-May-2003; LatestRevisionDate: 13-Apr-2006; LatestRevisionNote: IPC-7351 Footprint Added.; DatasheetVersion: 24-Sep-1999; PackageVersion: Sep-1999; PackageReference: SOT407-1; Publisher: Altium Limited; PackageDescription: 100-Pin Thin Quad Flat Pack 0.5 mm Pitch; ComponentLink1Description: Manufacturer Link; ComponentLink1URL: http://www-us2.semiconductors.philips.com/; ComponentLink2Description: Datasheet; ComponentLink2URL: http://www.semiconductors.philips.com/acrobat/datasheets/XA-H3_1.pdf
footprint SOT407-1_N (Thin QFP, 100-Leads, Body 14x14mm, Pitch 0.5mm, IPC Medium Density)
footprint SOT407-1_L (Thin QFP, 100-Leads, Body 14x14mm, Pitch 0.5mm, IPC High Density)
footprint SOT407-1_M (Thin QFP, 100-Leads, Body 14x14mm, Pitch 0.5mm, IPC Low Density)
pins: 1 VSS (power), 2 VDD (power), 3 A0 (out), 4 A1 (out), 5 A2 (out), 6 A3 (out), 7 A4 (out), 8 A5 (out), 9 A6 (out), 10 A7 (out), 11 A8 (out), 12 A9 (out), 13 A10 (out), 14 A11 (out), 15 A12 (out), 16 A13 (out), 17 A14 (out), 18 A15 (out), 19 VSS (power), 20 VDD (power), 21 A16 (out), 22 A17 (out), 23 A18 (out), 24 A19 (out), 25 D0 (io), 26 D1 (io), 27 D2 (io), 28 VSS (power), 29 VDD (power), 30 D3 (io), 31 D4 (io), 32 D5 (io), 33 D6 (io), 34 D7 (io), 35 D8 (io), 36 D9 (io), 37 D10 (io), 38 D11 (io), 39 D12 (io), 40 D13 (io), 41 D14 (io), 42 D15 (io), 43 VDD (power), 44 VSS (power), 45 ClkOut (out), 46 ~{CS}3 (out), 47 ~{CS}2 (out), 48 ~{CS}1 (out), 49 ~{CS}0 (out), 50 ~{WE} (out), 51 ~{OE} (out), 52 WAIT_Size16 (in), 53 ~{BHE} (out), 54 ~{BLE} (out), 55 ~{Reset_In} (in), 56 P3.0_~{CS}4_~{RTClk}1 (io), 57 P3.1_~{CS}5_~{RTS}1 (io), 58 P3.2_Timer0_~{ResetOut} (io), 59 VSS (power), 60 XTALIN (in), 61 XTALOUT (out), 62 VDD (power), 63 P3.3_Timer1_~{BRG}1 (io), 64 P3.4_~{CTS}1 (io), 65 P3.5_RxD1 (io), 66 P3.6_TxD1 (io), 67 P3.7_~{Int}1_~{TRClk}1 (io), 68 P1.0_RxD2 (io), 69 P1.1_TxD2 (io), 70 P1.2_~{RTClk}2 (io), 71 P1.3_~{TRClk}2 (io), 72 P1.4_~{CD}2 (io), 73 P1.5_~{CTS}2 (io), 74 P1.6_~{RTS}2 (io), 75 P1.7_~{BRG}2 (io), 76 VSS (power), 77 VDD (power), 78 ~{CD}1_~{Int}2 (io), 79 ~{Int}0 (io), 80 P2.0_RxD3 (io), 81 P2.1_TxD3 (io), 82 P2.2_~{RTClk}3 (io), 83 P2.3_~{ComClk}_~{TRClk}3 (io), 84 P2.4_~{CD}3 (io), 85 P2.5_~{CTS}3 (io), 86 P2.6_~{RTS}3 (io), 87 P2.7_~{BRG}3 (io), 88 VSS (power), 89 VDD (power), 90 P0.0_~{BRG}0 (io), 91 P0.1_~{RTS}0 (io), 92 P0.2_~{CTS}0 (io), 93 P0.3_~{CD}0 (io), 94 P0.4_~{TRClk}0 (io), 95 P0.5_~{RTClk}0 (io), 96 TxD0 (out), 97 RxD0 (in), 98 ~{GPOut} (out), 99 P0.6 (io), 100 P0.7 (io)

## PXAH40KFBE
designator U?
Single-Chip 16-Bit Microcontroller; Published: 21-May-2003; LatestRevisionDate: 13-Apr-2006; LatestRevisionNote: IPC-7351 Footprint Added.; DatasheetVersion: 24-Sep-1999; PackageVersion: Sep-1999; PackageReference: SOT407-1; Publisher: Altium Limited; PackageDescription: 100-Pin Thin Quad Flat Pack 0.5 mm Pitch; ComponentLink1Description: Manufacturer Link; ComponentLink1URL: http://www-us2.semiconductors.philips.com/; ComponentLink2Description: Datasheet; ComponentLink2URL: http://www.semiconductors.philips.com/acrobat/datasheets/XA-H4_1.pdf
footprint SOT407-1_N (Thin QFP, 100-Leads, Body 14x14mm, Pitch 0.5mm, IPC Medium Density)
footprint SOT407-1_L (Thin QFP, 100-Leads, Body 14x14mm, Pitch 0.5mm, IPC High Density)
footprint SOT407-1_M (Thin QFP, 100-Leads, Body 14x14mm, Pitch 0.5mm, IPC Low Density)
pins: 1 VSS (power), 2 VDD (power), 3 A0 (out), 4 A1 (out), 5 A2 (out), 6 A3 (out), 7 A4 (out), 8 A5 (out), 9 A6 (out), 10 A7 (A21_22) (out), 11 A8 (A19_A20) (out), 12 A9 (A0_A18) (out), 13 A10 (A1) (out), 14 A11 (A2) (out), 15 A12 (A3) (out), 16 A13 (A4) (out), 17 A14 (A5) (out), 18 A15 (A6_A22) (out), 19 VSS (power), 20 VDD (power), 21 A16 (A7_A20_A21) (out), 22 A17 (A8_A18_A19) (out), 23 A18 (out), 24 A19 (out), 25 D0 (io), 26 D1 (io), 27 D2 (io), 28 VSS (power), 29 VDD (power), 30 D3 (io), 31 D4 (io), 32 D5 (io), 33 D6 (io), 34 D7 (io), 35 D8 (io), 36 D9 (io), 37 D10 (io), 38 D11 (io), 39 D12 (io), 40 D13 (io), 41 D14 (io), 42 D15 (io), 43 VDD (power), 44 VSS (power), 45 ClkOut (out), 46 ~{CS}3_~{RAS}3 (out), 47 ~{CS}2_~{RAS}2 (out), 48 ~{CS}1_~{RAS}1 (out), 49 ~{CS}0 (out), 50 ~{WE} (out), 51 ~{OE} (out), 52 WAIT_Size16 (in), 53 ~{BHE}_~{CASH} (out), 54 ~{BLE}_~{CASL} (out), 55 ~{Reset_In} (in), 56 P3.0_~{CS}4_~{RAS}4_~{RTClk}1 (io), 57 P3.1_~{CS}5_~{RAS}5_~{RTS}1 (io), 58 P3.2_Timer0_~{ResetOut} (io), 59 VSS (power), 60 XTALIN (in), 61 XTALOUT (out), 62 VDD (power), 63 P3.3_Timer1_~{BRG}1_~{Sync}1 (io), 64 P3.4_~{CTS}1 (io), 65 P3.5_RxD1 (io), 66 P3.6_TxD1 (io), 67 P3.7_~{Int}1_~{TRClk}1 (io), 68 P1.0_RxD2 (io), 69 P1.1_TxD2 (io), 70 P1.2_~{RTClk}2 (io), 71 P1.3_~{TRClk}2 (io), 72 P1.4_~{CD}2 (io), 73 P1.5_~{CTS}2 (io), 74 P1.6_~{RTS}2 (io), 75 P1.7_~{BRG}2_~{Sync}2 (io), 76 VSS (power), 77 VDD (power), 78 ~{CD}1_~{Int}2 (io), 79 ~{Int}0 (io), 80 P2.0_RxD3 (io), 81 P2.1_TxD3 (io), 82 P2.2_~{RTClk}3 (io), 83 P2.3_~{ComClk}_~{TRClk}3 (io), 84 P2.4_~{CD}3 (io), 85 P2.5_~{CTS}3 (io), 86 P2.6_~{RTS}3 (io), 87 P2.7_~{Sync}3_~{BRG}3 (io), 88 VSS (power), 89 VDD (power), 90 P0.0_~{Sync}0_~{BRG}0 (io), 91 P0.1_~{RTS}0 (io), 92 P0.2_~{CTS}0 (io), 93 P0.3_~{CD}0 (io), 94 P0.4_~{TRClk}0 (io), 95 P0.5_~{RTClk}0 (io), 96 TxD0 (out), 97 RxD0 (in), 98 ~{GPOut} (out), 99 P0.6 (io), 100 P0.7 (io)

## PXAS30KBA
designator U?
XA 16-Bit Microcontroller Family, 32 K/1 K ROMless, 8-Channel 8-bit A/D, Low Voltage (2.7 V - 5.5 V), I²C, 2 UARTs, 16 MB Address Range; Published: 21-May-2003; LatestRevisionDate: 13-Apr-2006; LatestRevisionNote: IPC-7351 Footprint Added.; DatasheetVersion: Dec-2000; PackageVersion: Dec-2000; PackageReference: SOT188-3; Publisher: Altium Limited; PackageDescription: 68-Pin Leaded Chip Carrier 1.27 mm Pitch; Code_JEDEC: MO-047; Code_IPC: PLCC-68; ComponentLink1Description: Manufacturer Link; ComponentLink1URL: http://www-us2.semiconductors.philips.com/; ComponentLink2Description: Datasheet; ComponentLink2URL: http://www.semiconductors.philips.com/acrobat/datasheets/XA-S3_10.pdf
footprint SOT188-3_N (Leaded Chip Carrier, 68-Leads, Body 24.2x24.2mm, Pitch 1.27mm, IPC Medium Density)
footprint SOT188-3_L (Leaded Chip Carrier, 68-Leads, Body 24.2x24.2mm, Pitch 1.27mm, IPC High Density)
footprint SOT188-3_M (Leaded Chip Carrier, 68-Leads, Body 24.2x24.2mm, Pitch 1.27mm, IPC Low Density)
pins: 1 VSS (power), 2 VDD (power), 3 P4.0/ECI (io), 4 P4.1/CEX0 (io), 5 P4.2/CEX1 (io), 6 P4.3/CEX2 (io), 7 P4.4/CEX3 (io), 8 P4.5/CEX4 (io), 9 P4.6/A20 (io), 10 P4.7/A21 (io), 11 P3.0/RxD0 (io), 12 P3.1/TxD0 (io), 13 P3.2/~{INT}0 (io), 14 P3.3/~{INT}1 (io), 15 P3.4/T0 (io), 16 P3.5/T1/BUSW (io), 17 P3.6/~{WRL} (io), 18 P3.7/~{RD} (io), 19 ~{RSTOUT} (out), 20 VSS (power), 21 VDD (power), 22 ~{EA}/WAIT/VPP (in), 23 P5.0/AD0 (io), 24 P5.1/AD1 (io), 25 P5.2/AD2 (io), 26 P5.3/AD3 (io), 27 P5.4/AD4 (io), 28 P5.5/AD5 (io), 29 P5.6/AD6/SCL (io), 30 P5.7/AD7/SDA (io), 31 AVREF-, 32 AVREF+, 33 AVDD (power), 34 AVSS (power), 35 P1.0/A0/~{WRH} (io), 36 P1.1/A1 (io), 37 P1.2/A2 (io), 38 P1.3/A3 (io), 39 P1.4/RxD1 (io), 40 P1.5/TxD1 (io), 41 P1.6/T2 (io), 42 P1.7/T2EX (io), 43 P6.0/A22 (io), 44 P6.1/A23 (io), 45 P0.0/A4D0 (io), 46 P0.1/A5D1 (io), 47 ALE/~{PROG} (io), 48 ~{PSEN} (out), 49 CLKOUT (out), 50 ~{RST} (in), 51 P0.2/A6D2 (io), 52 P0.3/A7D3 (io), 53 P0.4/A8D4 (io), 54 VDD (power), 55 VSS (power), 56 P0.5/A9D5 (io), 57 P0.6/A10D6 (io), 58 P0.7/A11D7 (io), 59 P2.0/A12D8 (io), 60 P2.1/A13D9 (io), 61 P2.2/A14D10 (io), 62 P2.3/A15D11 (io), 63 P2.4/A16D12 (io), 64 P2.5/A17D13 (io), 65 P2.6/A18D14 (io), 66 P2.7/A19D15 (io), 67 XTAL2 (out), 68 XTAL1 (in)

## PXAS30KBBE
designator U?
XA 16-Bit Microcontroller Family, 32 K/1 K ROMless, 8-Channel 8-bit A/D, Low Voltage (2.7 V - 5.5 V), I²C, 2 UARTs, 16 MB Address Range; Published: 21-May-2003; LatestRevisionDate: 13-Apr-2006; LatestRevisionNote: IPC-7351 Footprint Added.; DatasheetVersion: Dec-2000; PackageVersion: Dec-2000; PackageReference: SOT315-1; Publisher: Altium Limited; PackageDescription: 80-Pin Thin Quad Flat Pack 0.5 mm Pitch; Code_JEDEC: MS-026; ComponentLink1Description: Manufacturer Link; ComponentLink1URL: http://www-us2.semiconductors.philips.com/; ComponentLink2Description: Datasheet; ComponentLink2URL: http://www.semiconductors.philips.com/acrobat/datasheets/XA-S3_10.pdf
footprint SOT315-1_N (Thin QFP, 80-Leads, Body 12x12mm, Pitch 0.5mm, IPC Medium Density)
footprint SOT315-1_L (Thin QFP, 80-Leads, Body 12x12mm, Pitch 0.5mm, IPC High Density)
footprint SOT315-1_M (Thin QFP, 80-Leads, Body 12x12mm, Pitch 0.5mm, IPC Low Density)
pins: 1 NC, 2 P4.7/A21 (io), 3 P3.0/RxD0 (io), 4 P3.1/TxD0 (io), 5 P3.2/~{INT}0 (io), 6 P3.3/~{INT}1 (io), 7 P3.4/T0 (io), 8 P3.5/T1/BUSW (io), 9 P3.6/~{WRL} (io), 10 P3.7/~{RD} (io), 11 ~{RSTOUT} (out), 12 VSS (power), 13 VSS (power), 14 VDD (power), 15 VDD (power), 16 ~{EA}/WAIT/VPP (in), 17 P5.0/AD0 (io), 18 P5.1/AD1 (io), 19 P5.2/AD2 (io), 20 P5.3/AD3 (io), 21 NC, 22 P5.4/AD4 (io), 23 P5.5/AD5 (io), 24 P5.6/AD6/SCL (io), 25 P5.7/AD7/SDA (io), 26 AVREF-, 27 AVREF+, 28 AVDD (power), 29 AVDD (power), 30 AVSS (power), 31 AVSS (power), 32 P1.0/A0/~{WRH} (io), 33 P1.1/A1 (io), 34 P1.2/A2 (io), 35 P1.3/A3 (io), 36 P1.4/RxD1 (io), 37 P1.5/TxD1 (io), 38 P1.6/T2 (io), 39 P1.7/T2EX (io), 40 P6.0/A22 (io), 41 P6.1/A23 (io), 42 P0.0/A4D0 (io), 43 P0.1/A5D1 (io), 44 ALE/~{PROG} (io), 45 ~{PSEN} (out), 46 CLKOUT (out), 47 ~{RST} (in), 48 P0.2/A6D2 (io), 49 P0.3/A7D3 (io), 50 P0.4/A8D4 (io), 51 VDD (power), 52 VDD (power), 53 VSS (power), 54 VSS (power), 55 P0.5/A9D5 (io), 56 P0.6/A10D6 (io), 57 P0.7/A11D7 (io), 58 P2.0/A12D8 (io), 59 P2.1/A13D9 (io), 60 NC, 61 P2.2/A14D10 (io), 62 P2.3/A15D11 (io), 63 P2.4/A16D12 (io), 64 P2.5/A17D13 (io), 65 P2.6/A18D14 (io), 66 P2.7/A19D15 (io), 67 XTAL2 (out), 68 XTAL1 (in), 69 VSS (power), 70 VSS (power), 71 VDD (power), 72 VDD (power), 73 P4.0/ECI (io), 74 P4.1/CEX0 (io), 75 P4.2/CEX1 (io), 76 P4.3/CEX2 (io), 77 P4.4/CEX3 (io), 78 P4.5/CEX4 (io), 79 P4.6/A20 (io), 80 NC

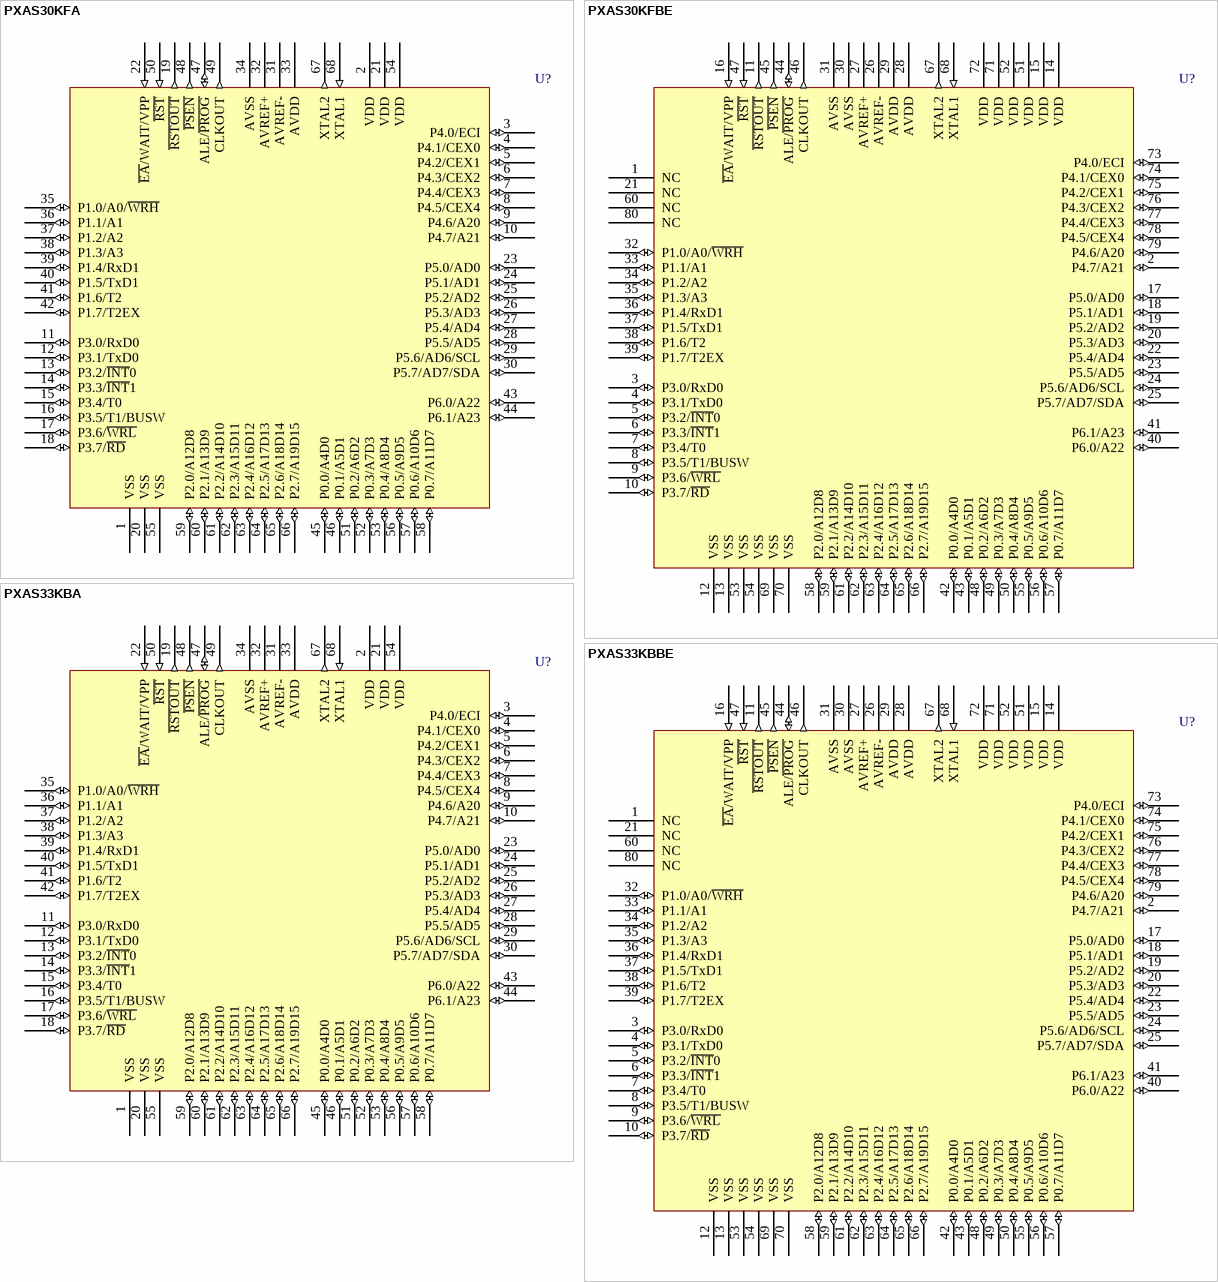
[diagram p3: symbols PXAS30KFA to PXAS33KBBE]

## PXAS30KFA
designator U?
XA 16-Bit Microcontroller Family, 32 K/1 K ROMless, 8-Channel 8-bit A/D, Low Voltage (2.7 V - 5.5 V), I²C, 2 UARTs, 16 MB Address Range; Published: 21-May-2003; LatestRevisionDate: 13-Apr-2006; LatestRevisionNote: IPC-7351 Footprint Added.; DatasheetVersion: Dec-2000; PackageVersion: Dec-2000; PackageReference: SOT188-3; Publisher: Altium Limited; PackageDescription: 68-Pin Leaded Chip Carrier 1.27 mm Pitch; Code_JEDEC: MO-047; Code_IPC: PLCC-68; ComponentLink1Description: Manufacturer Link; ComponentLink1URL: http://www-us2.semiconductors.philips.com/; ComponentLink2Description: Datasheet; ComponentLink2URL: http://www.semiconductors.philips.com/acrobat/datasheets/XA-S3_10.pdf
footprint SOT188-3_N (Leaded Chip Carrier, 68-Leads, Body 24.2x24.2mm, Pitch 1.27mm, IPC Medium Density)
footprint SOT188-3_L (Leaded Chip Carrier, 68-Leads, Body 24.2x24.2mm, Pitch 1.27mm, IPC High Density)
footprint SOT188-3_M (Leaded Chip Carrier, 68-Leads, Body 24.2x24.2mm, Pitch 1.27mm, IPC Low Density)
pins: 1 VSS (power), 2 VDD (power), 3 P4.0/ECI (io), 4 P4.1/CEX0 (io), 5 P4.2/CEX1 (io), 6 P4.3/CEX2 (io), 7 P4.4/CEX3 (io), 8 P4.5/CEX4 (io), 9 P4.6/A20 (io), 10 P4.7/A21 (io), 11 P3.0/RxD0 (io), 12 P3.1/TxD0 (io), 13 P3.2/~{INT}0 (io), 14 P3.3/~{INT}1 (io), 15 P3.4/T0 (io), 16 P3.5/T1/BUSW (io), 17 P3.6/~{WRL} (io), 18 P3.7/~{RD} (io), 19 ~{RSTOUT} (out), 20 VSS (power), 21 VDD (power), 22 ~{EA}/WAIT/VPP (in), 23 P5.0/AD0 (io), 24 P5.1/AD1 (io), 25 P5.2/AD2 (io), 26 P5.3/AD3 (io), 27 P5.4/AD4 (io), 28 P5.5/AD5 (io), 29 P5.6/AD6/SCL (io), 30 P5.7/AD7/SDA (io), 31 AVREF-, 32 AVREF+, 33 AVDD (power), 34 AVSS (power), 35 P1.0/A0/~{WRH} (io), 36 P1.1/A1 (io), 37 P1.2/A2 (io), 38 P1.3/A3 (io), 39 P1.4/RxD1 (io), 40 P1.5/TxD1 (io), 41 P1.6/T2 (io), 42 P1.7/T2EX (io), 43 P6.0/A22 (io), 44 P6.1/A23 (io), 45 P0.0/A4D0 (io), 46 P0.1/A5D1 (io), 47 ALE/~{PROG} (io), 48 ~{PSEN} (out), 49 CLKOUT (out), 50 ~{RST} (in), 51 P0.2/A6D2 (io), 52 P0.3/A7D3 (io), 53 P0.4/A8D4 (io), 54 VDD (power), 55 VSS (power), 56 P0.5/A9D5 (io), 57 P0.6/A10D6 (io), 58 P0.7/A11D7 (io), 59 P2.0/A12D8 (io), 60 P2.1/A13D9 (io), 61 P2.2/A14D10 (io), 62 P2.3/A15D11 (io), 63 P2.4/A16D12 (io), 64 P2.5/A17D13 (io), 65 P2.6/A18D14 (io), 66 P2.7/A19D15 (io), 67 XTAL2 (out), 68 XTAL1 (in)

## PXAS30KFBE
designator U?
XA 16-Bit Microcontroller Family, 32 K/1 K ROMless, 8-Channel 8-bit A/D, Low Voltage (2.7 V - 5.5 V), I²C, 2 UARTs, 16 MB Address Range; Published: 21-May-2003; LatestRevisionDate: 13-Apr-2006; LatestRevisionNote: IPC-7351 Footprint Added.; DatasheetVersion: Dec-2000; PackageVersion: Dec-2000; PackageReference: SOT315-1; Publisher: Altium Limited; PackageDescription: 80-Pin Thin Quad Flat Pack 0.5 mm Pitch; Code_JEDEC: MS-026; ComponentLink1Description: Manufacturer Link; ComponentLink1URL: http://www-us2.semiconductors.philips.com/; ComponentLink2Description: Datasheet; ComponentLink2URL: http://www.semiconductors.philips.com/acrobat/datasheets/XA-S3_10.pdf
footprint SOT315-1_N (Thin QFP, 80-Leads, Body 12x12mm, Pitch 0.5mm, IPC Medium Density)
footprint SOT315-1_L (Thin QFP, 80-Leads, Body 12x12mm, Pitch 0.5mm, IPC High Density)
footprint SOT315-1_M (Thin QFP, 80-Leads, Body 12x12mm, Pitch 0.5mm, IPC Low Density)
pins: 1 NC, 2 P4.7/A21 (io), 3 P3.0/RxD0 (io), 4 P3.1/TxD0 (io), 5 P3.2/~{INT}0 (io), 6 P3.3/~{INT}1 (io), 7 P3.4/T0 (io), 8 P3.5/T1/BUSW (io), 9 P3.6/~{WRL} (io), 10 P3.7/~{RD} (io), 11 ~{RSTOUT} (out), 12 VSS (power), 13 VSS (power), 14 VDD (power), 15 VDD (power), 16 ~{EA}/WAIT/VPP (in), 17 P5.0/AD0 (io), 18 P5.1/AD1 (io), 19 P5.2/AD2 (io), 20 P5.3/AD3 (io), 21 NC, 22 P5.4/AD4 (io), 23 P5.5/AD5 (io), 24 P5.6/AD6/SCL (io), 25 P5.7/AD7/SDA (io), 26 AVREF-, 27 AVREF+, 28 AVDD (power), 29 AVDD (power), 30 AVSS (power), 31 AVSS (power), 32 P1.0/A0/~{WRH} (io), 33 P1.1/A1 (io), 34 P1.2/A2 (io), 35 P1.3/A3 (io), 36 P1.4/RxD1 (io), 37 P1.5/TxD1 (io), 38 P1.6/T2 (io), 39 P1.7/T2EX (io), 40 P6.0/A22 (io), 41 P6.1/A23 (io), 42 P0.0/A4D0 (io), 43 P0.1/A5D1 (io), 44 ALE/~{PROG} (io), 45 ~{PSEN} (out), 46 CLKOUT (out), 47 ~{RST} (in), 48 P0.2/A6D2 (io), 49 P0.3/A7D3 (io), 50 P0.4/A8D4 (io), 51 VDD (power), 52 VDD (power), 53 VSS (power), 54 VSS (power), 55 P0.5/A9D5 (io), 56 P0.6/A10D6 (io), 57 P0.7/A11D7 (io), 58 P2.0/A12D8 (io), 59 P2.1/A13D9 (io), 60 NC, 61 P2.2/A14D10 (io), 62 P2.3/A15D11 (io), 63 P2.4/A16D12 (io), 64 P2.5/A17D13 (io), 65 P2.6/A18D14 (io), 66 P2.7/A19D15 (io), 67 XTAL2 (out), 68 XTAL1 (in), 69 VSS (power), 70 VSS (power), 71 VDD (power), 72 VDD (power), 73 P4.0/ECI (io), 74 P4.1/CEX0 (io), 75 P4.2/CEX1 (io), 76 P4.3/CEX2 (io), 77 P4.4/CEX3 (io), 78 P4.5/CEX4 (io), 79 P4.6/A20 (io), 80 NC

## PXAS33KBA
designator U?
XA 16-Bit Microcontroller Family, 32 K/1 K ROM, 8-Channel 8-bit A/D, Low Voltage (2.7 V - 5.5 V), I²C, 2 UARTs, 16 MB Address Range; Published: 21-May-2003; LatestRevisionDate: 13-Apr-2006; LatestRevisionNote: IPC-7351 Footprint Added.; DatasheetVersion: Dec-2000; PackageVersion: Dec-2000; PackageReference: SOT188-3; Publisher: Altium Limited; PackageDescription: 68-Pin Leaded Chip Carrier 1.27 mm Pitch; Code_JEDEC: MO-047; Code_IPC: PLCC-68; ComponentLink1Description: Manufacturer Link; ComponentLink1URL: http://www-us2.semiconductors.philips.com/; ComponentLink2Description: Datasheet; ComponentLink2URL: http://www.semiconductors.philips.com/acrobat/datasheets/XA-S3_10.pdf
footprint SOT188-3_N (Leaded Chip Carrier, 68-Leads, Body 24.2x24.2mm, Pitch 1.27mm, IPC Medium Density)
footprint SOT188-3_L (Leaded Chip Carrier, 68-Leads, Body 24.2x24.2mm, Pitch 1.27mm, IPC High Density)
footprint SOT188-3_M (Leaded Chip Carrier, 68-Leads, Body 24.2x24.2mm, Pitch 1.27mm, IPC Low Density)
pins: 1 VSS (power), 2 VDD (power), 3 P4.0/ECI (io), 4 P4.1/CEX0 (io), 5 P4.2/CEX1 (io), 6 P4.3/CEX2 (io), 7 P4.4/CEX3 (io), 8 P4.5/CEX4 (io), 9 P4.6/A20 (io), 10 P4.7/A21 (io), 11 P3.0/RxD0 (io), 12 P3.1/TxD0 (io), 13 P3.2/~{INT}0 (io), 14 P3.3/~{INT}1 (io), 15 P3.4/T0 (io), 16 P3.5/T1/BUSW (io), 17 P3.6/~{WRL} (io), 18 P3.7/~{RD} (io), 19 ~{RSTOUT} (out), 20 VSS (power), 21 VDD (power), 22 ~{EA}/WAIT/VPP (in), 23 P5.0/AD0 (io), 24 P5.1/AD1 (io), 25 P5.2/AD2 (io), 26 P5.3/AD3 (io), 27 P5.4/AD4 (io), 28 P5.5/AD5 (io), 29 P5.6/AD6/SCL (io), 30 P5.7/AD7/SDA (io), 31 AVREF-, 32 AVREF+, 33 AVDD (power), 34 AVSS (power), 35 P1.0/A0/~{WRH} (io), 36 P1.1/A1 (io), 37 P1.2/A2 (io), 38 P1.3/A3 (io), 39 P1.4/RxD1 (io), 40 P1.5/TxD1 (io), 41 P1.6/T2 (io), 42 P1.7/T2EX (io), 43 P6.0/A22 (io), 44 P6.1/A23 (io), 45 P0.0/A4D0 (io), 46 P0.1/A5D1 (io), 47 ALE/~{PROG} (io), 48 ~{PSEN} (out), 49 CLKOUT (out), 50 ~{RST} (in), 51 P0.2/A6D2 (io), 52 P0.3/A7D3 (io), 53 P0.4/A8D4 (io), 54 VDD (power), 55 VSS (power), 56 P0.5/A9D5 (io), 57 P0.6/A10D6 (io), 58 P0.7/A11D7 (io), 59 P2.0/A12D8 (io), 60 P2.1/A13D9 (io), 61 P2.2/A14D10 (io), 62 P2.3/A15D11 (io), 63 P2.4/A16D12 (io), 64 P2.5/A17D13 (io), 65 P2.6/A18D14 (io), 66 P2.7/A19D15 (io), 67 XTAL2 (out), 68 XTAL1 (in)

## PXAS33KBBE
designator U?
XA 16-Bit Microcontroller Family, 32 K/1 K ROM, 8-Channel 8-bit A/D, Low Voltage (2.7 V - 5.5 V), I²C, 2 UARTs, 16 MB Address Range; Published: 21-May-2003; LatestRevisionDate: 13-Apr-2006; LatestRevisionNote: IPC-7351 Footprint Added.; DatasheetVersion: Dec-2000; PackageVersion: Dec-2000; PackageReference: SOT315-1; Publisher: Altium Limited; PackageDescription: 80-Pin Thin Quad Flat Pack 0.5 mm Pitch; Code_JEDEC: MS-026; ComponentLink1Description: Manufacturer Link; ComponentLink1URL: http://www-us2.semiconductors.philips.com/; ComponentLink2Description: Datasheet; ComponentLink2URL: http://www.semiconductors.philips.com/acrobat/datasheets/XA-S3_10.pdf
footprint SOT315-1_N (Thin QFP, 80-Leads, Body 12x12mm, Pitch 0.5mm, IPC Medium Density)
footprint SOT315-1_L (Thin QFP, 80-Leads, Body 12x12mm, Pitch 0.5mm, IPC High Density)
footprint SOT315-1_M (Thin QFP, 80-Leads, Body 12x12mm, Pitch 0.5mm, IPC Low Density)
pins: 1 NC, 2 P4.7/A21 (io), 3 P3.0/RxD0 (io), 4 P3.1/TxD0 (io), 5 P3.2/~{INT}0 (io), 6 P3.3/~{INT}1 (io), 7 P3.4/T0 (io), 8 P3.5/T1/BUSW (io), 9 P3.6/~{WRL} (io), 10 P3.7/~{RD} (io), 11 ~{RSTOUT} (out), 12 VSS (power), 13 VSS (power), 14 VDD (power), 15 VDD (power), 16 ~{EA}/WAIT/VPP (in), 17 P5.0/AD0 (io), 18 P5.1/AD1 (io), 19 P5.2/AD2 (io), 20 P5.3/AD3 (io), 21 NC, 22 P5.4/AD4 (io), 23 P5.5/AD5 (io), 24 P5.6/AD6/SCL (io), 25 P5.7/AD7/SDA (io), 26 AVREF-, 27 AVREF+, 28 AVDD (power), 29 AVDD (power), 30 AVSS (power), 31 AVSS (power), 32 P1.0/A0/~{WRH} (io), 33 P1.1/A1 (io), 34 P1.2/A2 (io), 35 P1.3/A3 (io), 36 P1.4/RxD1 (io), 37 P1.5/TxD1 (io), 38 P1.6/T2 (io), 39 P1.7/T2EX (io), 40 P6.0/A22 (io), 41 P6.1/A23 (io), 42 P0.0/A4D0 (io), 43 P0.1/A5D1 (io), 44 ALE/~{PROG} (io), 45 ~{PSEN} (out), 46 CLKOUT (out), 47 ~{RST} (in), 48 P0.2/A6D2 (io), 49 P0.3/A7D3 (io), 50 P0.4/A8D4 (io), 51 VDD (power), 52 VDD (power), 53 VSS (power), 54 VSS (power), 55 P0.5/A9D5 (io), 56 P0.6/A10D6 (io), 57 P0.7/A11D7 (io), 58 P2.0/A12D8 (io), 59 P2.1/A13D9 (io), 60 NC, 61 P2.2/A14D10 (io), 62 P2.3/A15D11 (io), 63 P2.4/A16D12 (io), 64 P2.5/A17D13 (io), 65 P2.6/A18D14 (io), 66 P2.7/A19D15 (io), 67 XTAL2 (out), 68 XTAL1 (in), 69 VSS (power), 70 VSS (power), 71 VDD (power), 72 VDD (power), 73 P4.0/ECI (io), 74 P4.1/CEX0 (io), 75 P4.2/CEX1 (io), 76 P4.3/CEX2 (io), 77 P4.4/CEX3 (io), 78 P4.5/CEX4 (io), 79 P4.6/A20 (io), 80 NC

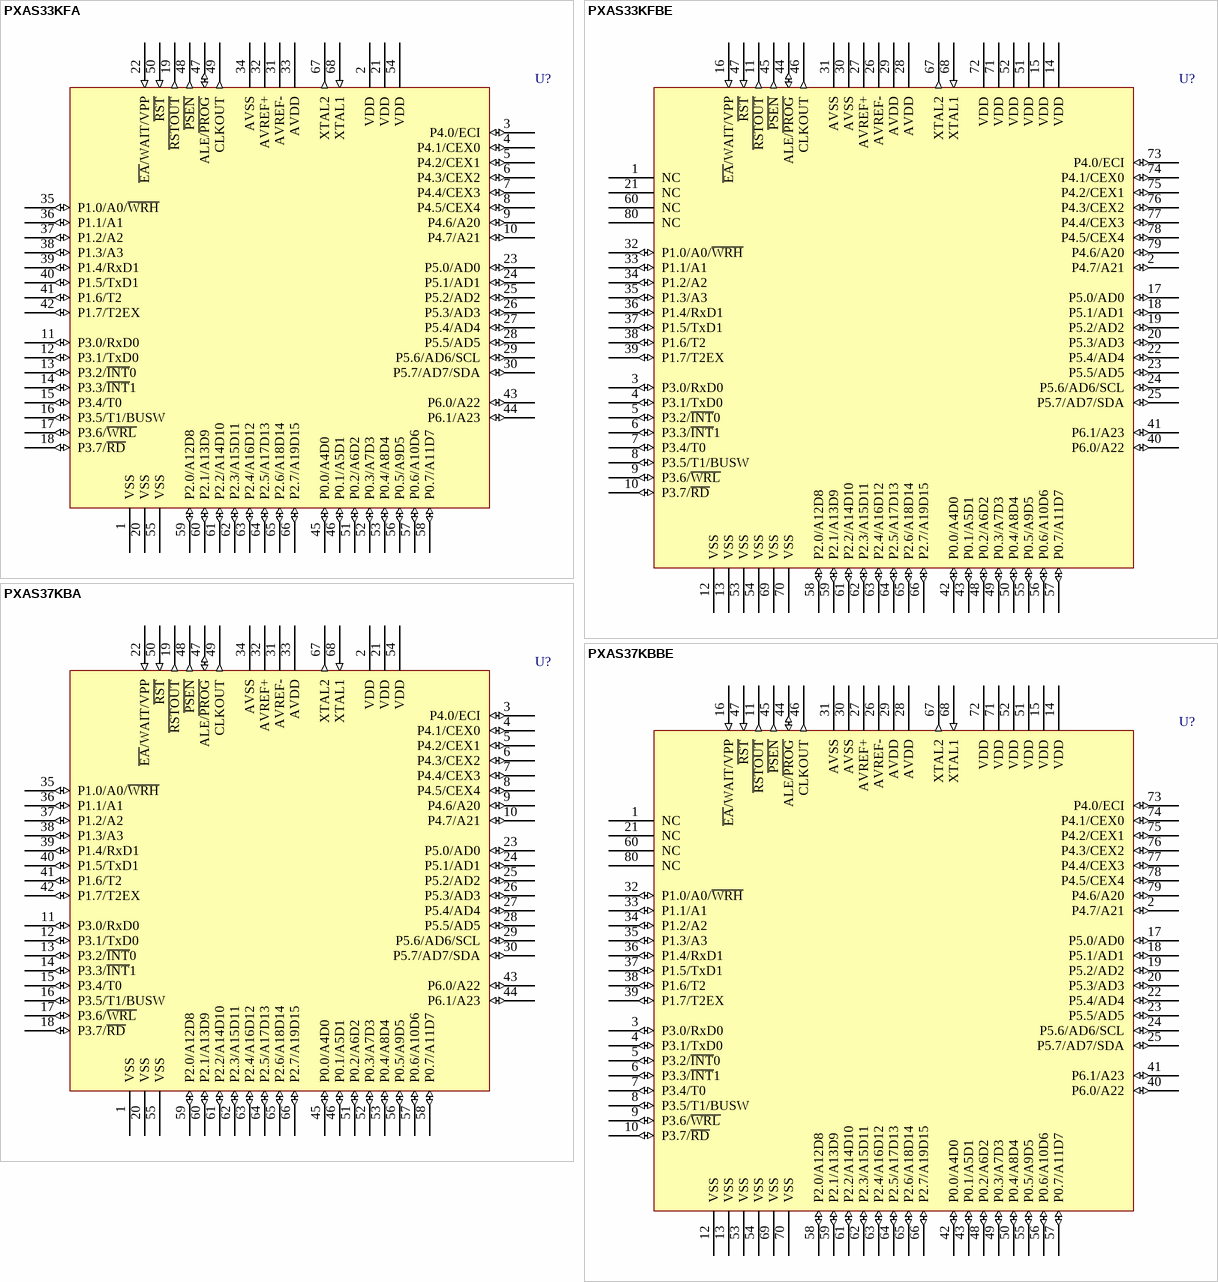
[diagram p4: symbols PXAS33KFA to PXAS37KBBE]